# Altium schematic symbol library Interface_UART.SchLib: 164 symbols (part 1 of 2)
Pins are listed as number, name and electrical type; pins without a type are passive.

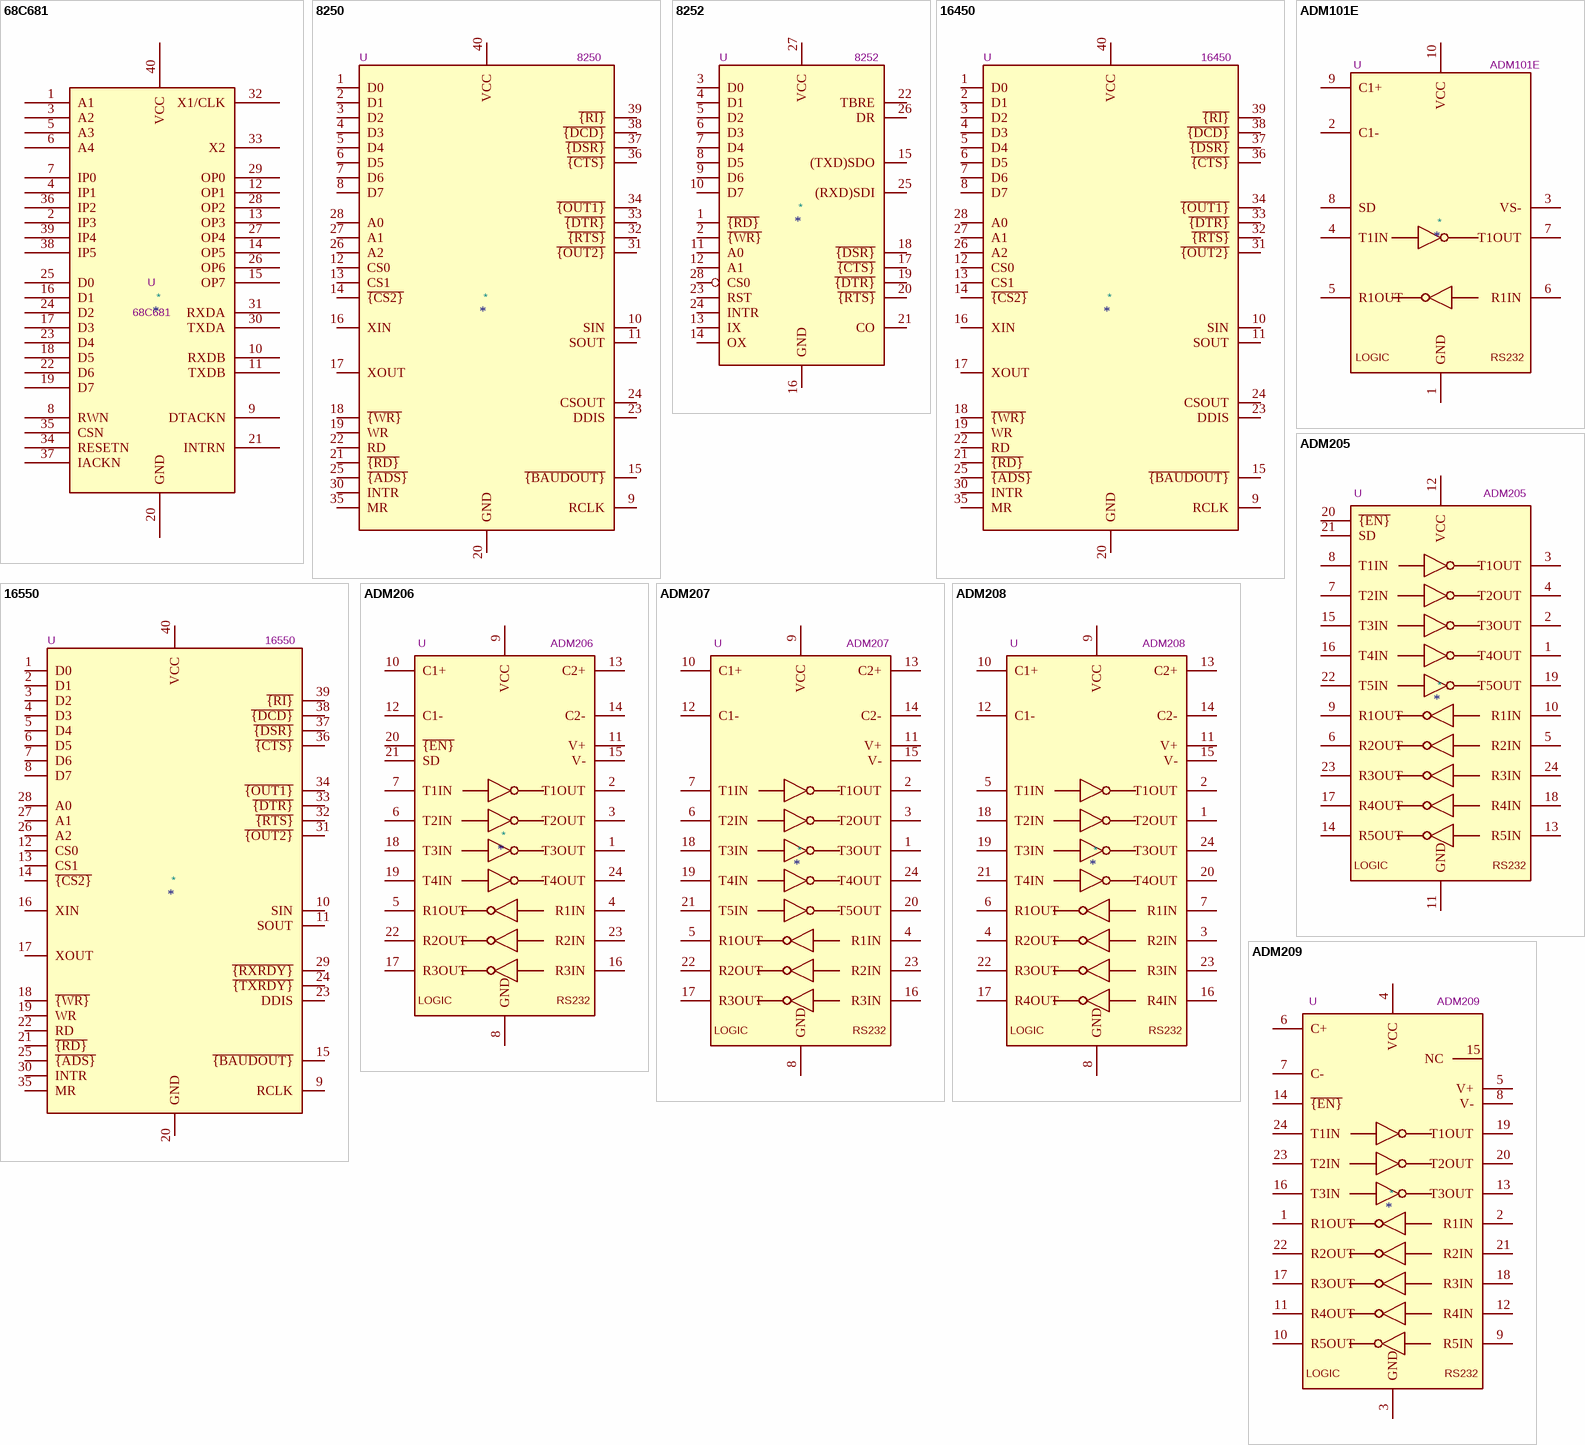
[diagram p0: symbols 68C681 to ADM209]

## 68C681
designator *  value 68C681  Reference: U
CMOS Dual Channel UART; ki_keywords: UART serial; Datasheet: https://www.elektronik.ropla.eu/pdf/stock/exa/xr68c681.pdf; Description_: CMOS Dual Channel UART
pins: 1 A1, 2 IP3, 3 A2, 4 IP1, 5 A3, 6 A4, 7 IP0, 8 RWN, 9 DTACKN, 10 RXDB, 11 TXDB, 12 OP1, 13 OP3, 14 OP5, 15 OP7, 16 D1, 17 D3, 18 D5, 19 D7, 20 GND, 21 INTRN, 22 D6, 23 D4, 24 D2, 25 D0, 26 OP6, 27 OP4, 28 OP2, 29 OP0, 30 TXDA, 31 RXDA, 32 X1/CLK, 33 X2, 34 RESETN, 35 CSN, 36 IP2, 37 IACKN, 38 IP5, 39 IP4, 40 VCC

## 8250
designator *  value 8250  Reference: U
PC8250A, Universal Asynchronous Receiver/Transmitter, PDIP-40; ki_keywords: 1ch UART; ki_fp_filters: DIP*W15.24mm*; Footprint: Package_DIP:DIP-40_W15.24mm; Description_: PC8250A, Universal Asynchronous Receiver/Transmitter, PDIP-40
pins: 1 D0, 2 D1, 3 D2, 4 D3, 5 D4, 6 D5, 7 D6, 8 D7, 9 RCLK, 10 SIN, 11 SOUT, 12 CS0, 13 CS1, 14 ~{{CS2}}, 15 ~{{BAUDOUT}}, 16 XIN, 17 XOUT, 18 ~{{WR}}, 19 WR, 20 GND, 21 ~{{RD}}, 22 RD, 23 DDIS, 24 CSOUT, 25 ~{{ADS}}, 26 A2, 27 A1, 28 A0, 30 INTR, 31 ~{{OUT2}}, 32 ~{{RTS}}, 33 ~{{DTR}}, 34 ~{{OUT1}}, 35 MR, 36 ~{{CTS}}, 37 ~{{DSR}}, 38 ~{{DCD}}, 39 ~{{RI}}, 40 VCC

## 8252
designator *  value 8252  Reference: U
Universal Asynchronous Receiver/Transmitter, PDIP-28; ki_keywords: UART Serial Interface; ki_fp_filters: DIP*W15.24mm*; Footprint: Package_DIP:DIP-28_W15.24mm; Description_: Universal Asynchronous Receiver/Transmitter, PDIP-28
pins: 1 ~{{RD}}, 2 ~{{WR}}, 3 D0, 4 D1, 5 D2, 6 D3, 7 D4, 8 D5, 9 D6, 10 D7, 11 A0, 12 A1, 13 IX, 14 OX, 15 (TXD)SDO, 16 GND, 17 ~{{CTS}}, 18 ~{{DSR}}, 19 ~{{DTR}}, 20 ~{{RTS}}, 21 CO, 22 TBRE, 23 RST, 24 INTR, 25 (RXD)SDI, 26 DR, 27 VCC, 28 CS0

## 16450
designator *  value 16450  Reference: U
PC16450, Universal Asynchronous Receiver/Transmitter, PDIP-40; ki_keywords: 1ch UART; ki_fp_filters: DIP*W15.24mm*; Footprint: Package_DIP:DIP-40_W15.24mm; Description_: PC16450, Universal Asynchronous Receiver/Transmitter, PDIP-40
pins: 1 D0, 2 D1, 3 D2, 4 D3, 5 D4, 6 D5, 7 D6, 8 D7, 9 RCLK, 10 SIN, 11 SOUT, 12 CS0, 13 CS1, 14 ~{{CS2}}, 15 ~{{BAUDOUT}}, 16 XIN, 17 XOUT, 18 ~{{WR}}, 19 WR, 20 GND, 21 ~{{RD}}, 22 RD, 23 DDIS, 24 CSOUT, 25 ~{{ADS}}, 26 A2, 27 A1, 28 A0, 30 INTR, 31 ~{{OUT2}}, 32 ~{{RTS}}, 33 ~{{DTR}}, 34 ~{{OUT1}}, 35 MR, 36 ~{{CTS}}, 37 ~{{DSR}}, 38 ~{{DCD}}, 39 ~{{RI}}, 40 VCC

## 16550
designator *  value 16550  Reference: U
PC16550D, Universal Asynchronous Receiver/Transmitter with FIFOs, PDIP-40; ki_keywords: 1ch UART FIFO; ki_fp_filters: DIP*W15.24mm*; Footprint: Package_DIP:DIP-40_W15.24mm; Datasheet: http://www.ti.com/lit/ds/symlink/pc16550d.pdf; Description_: PC16550D, Universal Asynchronous Receiver/Transmitter with FIFOs, PDIP-40
pins: 1 D0, 2 D1, 3 D2, 4 D3, 5 D4, 6 D5, 7 D6, 8 D7, 9 RCLK, 10 SIN, 11 SOUT, 12 CS0, 13 CS1, 14 ~{{CS2}}, 15 ~{{BAUDOUT}}, 16 XIN, 17 XOUT, 18 ~{{WR}}, 19 WR, 20 GND, 21 ~{{RD}}, 22 RD, 23 DDIS, 24 ~{{TXRDY}}, 25 ~{{ADS}}, 26 A2, 27 A1, 28 A0, 29 ~{{RXRDY}}, 30 INTR, 31 ~{{OUT2}}, 32 ~{{RTS}}, 33 ~{{DTR}}, 34 ~{{OUT1}}, 35 MR, 36 ~{{CTS}}, 37 ~{{DSR}}, 38 ~{{DCD}}, 39 ~{{RI}}, 40 VCC

## ADM101E
designator *  value ADM101E  Reference: U
Single RS232 driver/receiver, 5V supply, 460kb/s; ki_keywords: rs232 uart transceiver line-driver; ki_fp_filters: MSOP*; Footprint: Package_SO:MSOP-10_3x3mm_P0.5mm; Datasheet: https://www.analog.com/media/en/technical-documentation/data-sheets/ADM101E.pdf; Description_: Single RS232 driver/receiver, 5V supply, 460kb/s
pins: 1 GND, 2 C1-, 3 VS-, 4 T1IN, 5 R1OUT, 6 R1IN, 7 T1OUT, 8 SD, 9 C1+, 10 VCC
text: LOGIC; RS232

## ADM205
designator *  value ADM205  Reference: U
0.1 μF, 5V powered CMOS RS-232 120kb/s transceiver with 5 drivers and 5 receivers (tx/rx: 5/5), shutdown / enable pins, DIP-24 (600 mil); ki_keywords: UART RS232 Obsolete; ki_fp_filters: *DIP*W15.*; Footprint: Package_DIP:DIP-24_W15.24mm; Datasheet: https://www.analog.com/media/en/technical-documentation/obsolete-data-sheets/17659925ADM205.PDF; Description_: 0.1 μF, 5V powered CMOS RS-232 120kb/s transceiver with 5 drivers and 5 receivers (tx/rx: 5/5), shutdown / enable pins, DIP-24 (600 mil)
pins: 1 T4OUT, 2 T3OUT, 3 T1OUT, 4 T2OUT, 5 R2IN, 6 R2OUT, 7 T2IN, 8 T1IN, 9 R1OUT, 10 R1IN, 11 GND, 12 VCC, 13 R5IN, 14 R5OUT, 15 T3IN, 16 T4IN, 17 R4OUT, 18 R4IN, 19 T5OUT, 20 ~{{EN}}, 21 SD, 22 T5IN, 23 R3OUT, 24 R3IN
text: LOGIC; RS232

## ADM206
designator *  value ADM206  Reference: U
0.1 μF, 5V powered CMOS RS-232 120kb/s transceiver with 4 drivers and 3 receivers (tx/rx: 4/3), shutdown / enable pins, DIP-24 (300 mil) / SOIC-24 / SSOP-24; ki_keywords: UART RS232; ki_fp_filters: *DIP*W7.62* *SOIC*7.*15.*P1.27mm* *SSOP*5.3*8.*P0.65mm*; Datasheet: https://www.analog.com/media/en/technical-documentation/data-sheets/ADM206_207_208_211_213.pdf; Description_: 0.1 μF, 5V powered CMOS RS-232 120kb/s transceiver with 4 drivers and 3 receivers (tx/rx: 4/3), shutdown / enable pins, DIP-24 (300 mil) / SOIC-24 / SSOP-24
pins: 1 T3OUT, 2 T1OUT, 3 T2OUT, 4 R1IN, 5 R1OUT, 6 T2IN, 7 T1IN, 8 GND, 9 VCC, 10 C1+, 11 V+, 12 C1-, 13 C2+, 14 C2-, 15 V-, 16 R3IN, 17 R3OUT, 18 T3IN, 19 T4IN, 20 ~{{EN}}, 21 SD, 22 R2OUT, 23 R2IN, 24 T4OUT
text: LOGIC; RS232

## ADM207
designator *  value ADM207  Reference: U
0.1 μF, 5V powered CMOS RS-232 120kb/s transceiver with 5 drivers and 3 receivers (tx/rx: 5/3), DIP-24 (300 mil) / SOIC-24 / SSOP-24; ki_keywords: UART RS232; ki_fp_filters: *DIP*W7.62* *SOIC*7.*15.*P1.27mm* *SSOP*5.3*8.*P0.65mm*; Datasheet: https://www.analog.com/media/en/technical-documentation/data-sheets/ADM206_207_208_211_213.pdf; Description_: 0.1 μF, 5V powered CMOS RS-232 120kb/s transceiver with 5 drivers and 3 receivers (tx/rx: 5/3), DIP-24 (300 mil) / SOIC-24 / SSOP-24
pins: 1 T3OUT, 2 T1OUT, 3 T2OUT, 4 R1IN, 5 R1OUT, 6 T2IN, 7 T1IN, 8 GND, 9 VCC, 10 C1+, 11 V+, 12 C1-, 13 C2+, 14 C2-, 15 V-, 16 R3IN, 17 R3OUT, 18 T3IN, 19 T4IN, 20 T5OUT, 21 T5IN, 22 R2OUT, 23 R2IN, 24 T4OUT
text: LOGIC; RS232

## ADM208
designator *  value ADM208  Reference: U
0.1 μF, 5V powered CMOS RS-232 120kb/s transceiver with 4 drivers and 4 receivers (tx/rx: 4/4), DIP-24 (300 mil) / SOIC-24 / SSOP-24; ki_keywords: UART RS232; ki_fp_filters: *DIP*W7.62* *SOIC*7.*15.*P1.27mm* *SSOP*5.3*8.*P0.65mm*; Datasheet: https://www.analog.com/media/en/technical-documentation/data-sheets/ADM206_207_208_211_213.pdf; Description_: 0.1 μF, 5V powered CMOS RS-232 120kb/s transceiver with 4 drivers and 4 receivers (tx/rx: 4/4), DIP-24 (300 mil) / SOIC-24 / SSOP-24
pins: 1 T2OUT, 2 T1OUT, 3 R2IN, 4 R2OUT, 5 T1IN, 6 R1OUT, 7 R1IN, 8 GND, 9 VCC, 10 C1+, 11 V+, 12 C1-, 13 C2+, 14 C2-, 15 V-, 16 R4IN, 17 R4OUT, 18 T2IN, 19 T3IN, 20 T4OUT, 21 T4IN, 22 R3OUT, 23 R3IN, 24 T3OUT
text: LOGIC; RS232

## ADM209
designator *  value ADM209  Reference: U
0.1 μF, 5V powered CMOS RS-232 120kb/s transceiver with 3 drivers and 5 receivers (tx/rx: 3/5), enable pin, external 9 V to 13.2 V supply, DIP-24 (300 mil) / SOIC-24 / SSOP-24; ki_keywords: UART RS232 Obsolete; ki_fp_filters: *DIP*W7.62* *SOIC*7.*15.*P1.27mm* *SSOP*5.3*8.*P0.65mm*; Datasheet: https://www.analog.com/media/en/technical-documentation/obsolete-data-sheets/17659925ADM205.PDF; Description_: 0.1 μF, 5V powered CMOS RS-232 120kb/s transceiver with 3 drivers and 5 receivers (tx/rx: 3/5), enable pin, external 9 V to 13.2 V supply, DIP-24 (300 mil) / SOIC-24 / SSOP-24
pins: 1 R1OUT, 2 R1IN, 3 GND, 4 VCC, 5 V+, 6 C+, 7 C-, 8 V-, 9 R5IN, 10 R5OUT, 11 R4OUT, 12 R4IN, 13 T3OUT, 14 ~{{EN}}, 15 NC, 16 T3IN, 17 R3OUT, 18 R3IN, 19 T1OUT, 20 T2OUT, 21 R2IN, 22 R2OUT, 23 T2IN, 24 T1IN
text: LOGIC; RS232

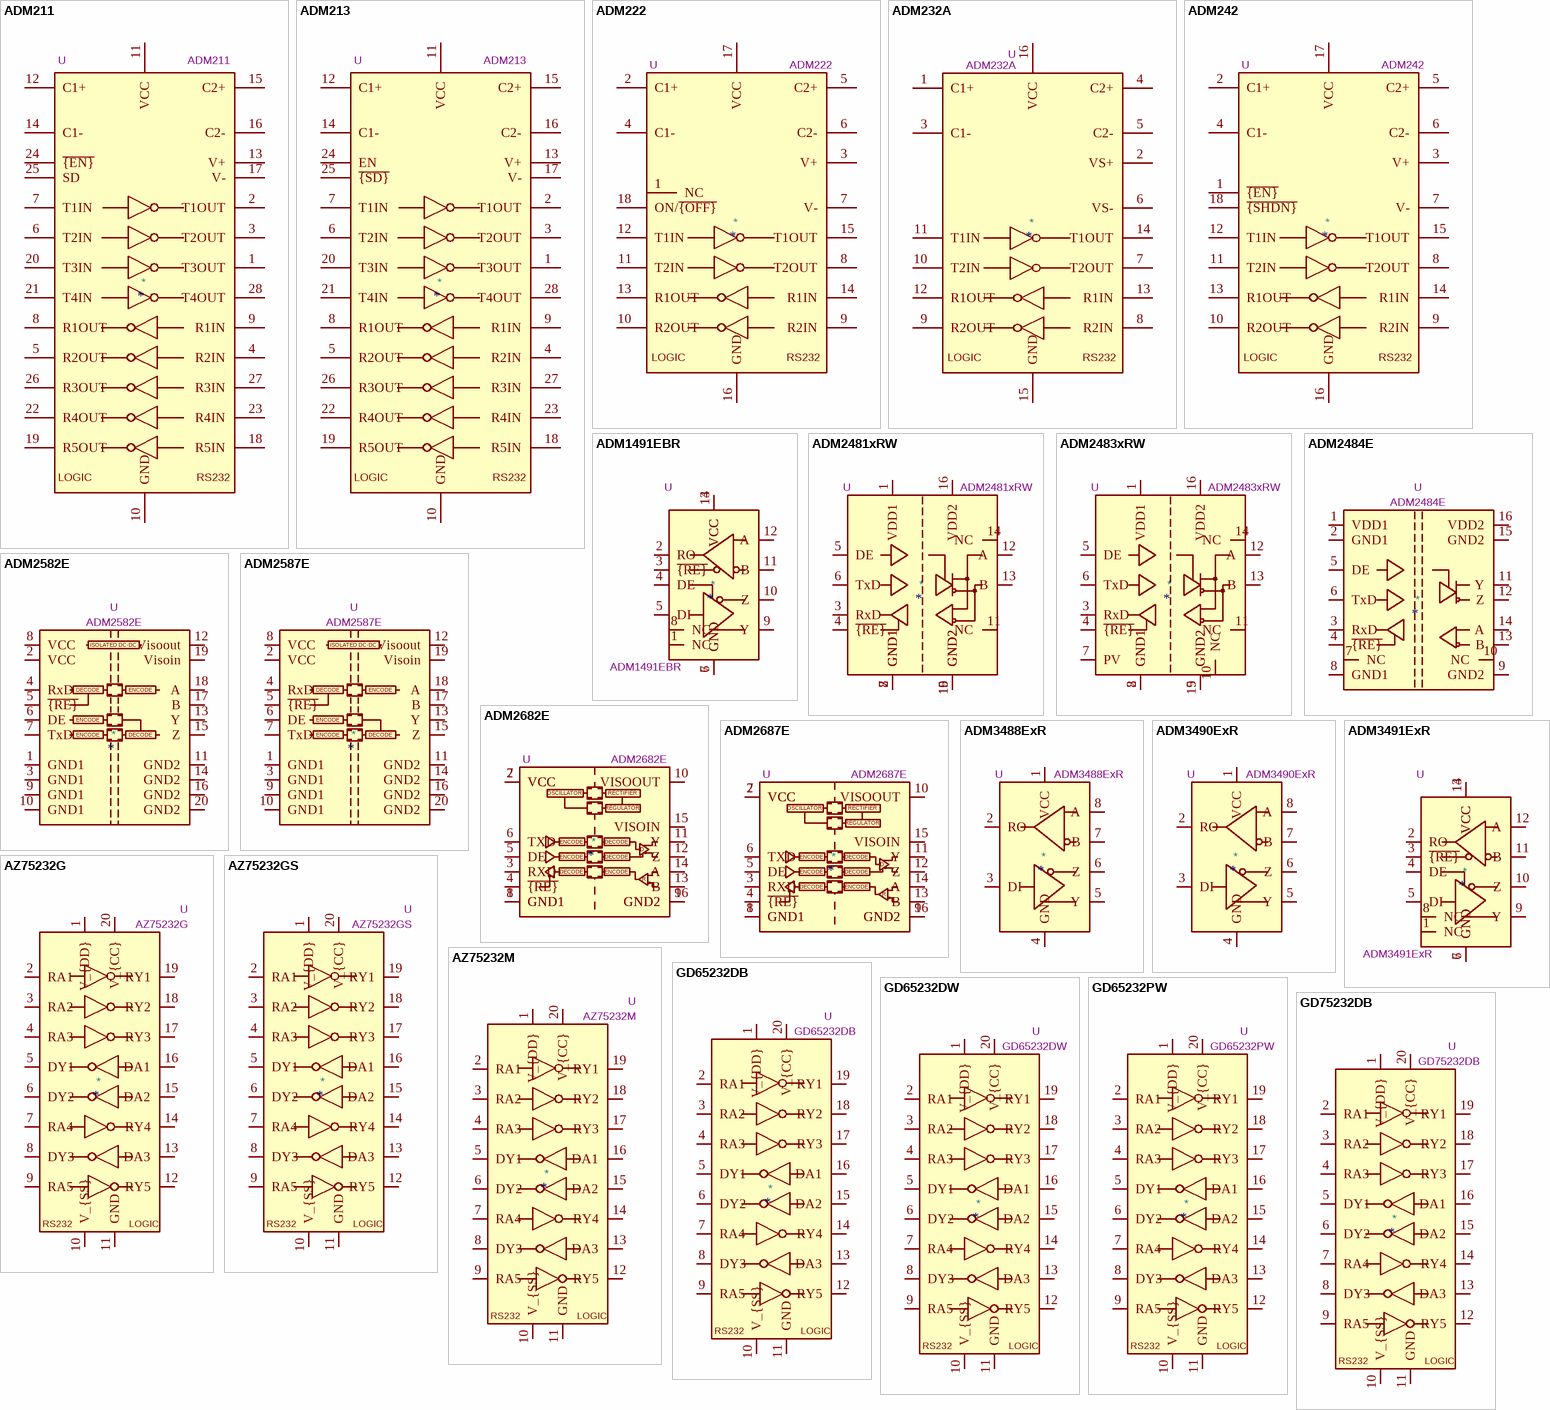
[diagram p1: symbols ADM211 to GD75232DB]

## ADM211
designator *  value ADM211  Reference: U
0.1 μF, 5V powered CMOS RS-232 120kb/s transceiver with 4 drivers and 5 receivers (tx/rx: 4/5), shutdown / enable pins, SOIC-28 / SSOP-28; ki_keywords: UART RS232; ki_fp_filters: *SOIC*7.*17.*P1.27mm* *SSOP*5.3*10.*P0.65mm*; Datasheet: https://www.analog.com/media/en/technical-documentation/data-sheets/ADM206_207_208_211_213.pdf; Description_: 0.1 μF, 5V powered CMOS RS-232 120kb/s transceiver with 4 drivers and 5 receivers (tx/rx: 4/5), shutdown / enable pins, SOIC-28 / SSOP-28
pins: 1 T3OUT, 2 T1OUT, 3 T2OUT, 4 R2IN, 5 R2OUT, 6 T2IN, 7 T1IN, 8 R1OUT, 9 R1IN, 10 GND, 11 VCC, 12 C1+, 13 V+, 14 C1-, 15 C2+, 16 C2-, 17 V-, 18 R5IN, 19 R5OUT, 20 T3IN, 21 T4IN, 22 R4OUT, 23 R4IN, 24 ~{{EN}}, 25 SD, 26 R3OUT, 27 R3IN, 28 T4OUT
text: LOGIC; RS232

## ADM213
designator *  value ADM213  Reference: U
0.1 μF, 5V powered CMOS RS-232 120kb/s transceiver with 4 drivers and 5 receivers (tx/rx: 4/5; 2 receivers active in shutdown), shutdown / enable pins, SOIC-28 / SSOP-28; ki_keywords: UART RS232; ki_fp_filters: *SOIC*7.*17.*P1.27mm* *SSOP*5.3*10.*P0.65mm*; Datasheet: https://www.analog.com/media/en/technical-documentation/data-sheets/ADM206_207_208_211_213.pdf; Description_: 0.1 μF, 5V powered CMOS RS-232 120kb/s transceiver with 4 drivers and 5 receivers (tx/rx: 4/5; 2 receivers active in shutdown), shutdown / enable pins, SOIC-28 / SSOP-28
pins: 1 T3OUT, 2 T1OUT, 3 T2OUT, 4 R2IN, 5 R2OUT, 6 T2IN, 7 T1IN, 8 R1OUT, 9 R1IN, 10 GND, 11 VCC, 12 C1+, 13 V+, 14 C1-, 15 C2+, 16 C2-, 17 V-, 18 R5IN, 19 R5OUT, 20 T3IN, 21 T4IN, 22 R4OUT, 23 R4IN, 24 EN, 25 ~{{SD}}, 26 R3OUT, 27 R3IN, 28 T4OUT
text: LOGIC; RS232

## ADM222
designator *  value ADM222  Reference: U
Dual RS232 driver/receiver, 5V supply, 200kb/s; ki_keywords: rs232 uart transceiver; ki_fp_filters: SO* DIP*W7.62mm*; Datasheet: https://www.analog.com/media/en/technical-documentation/data-sheets/ADM222_232A_242.pdf; Description_: Dual RS232 driver/receiver, 5V supply, 200kb/s
pins: 1 NC, 2 C1+, 3 V+, 4 C1-, 5 C2+, 6 C2-, 7 V-, 8 T2OUT, 9 R2IN, 10 R2OUT, 11 T2IN, 12 T1IN, 13 R1OUT, 14 R1IN, 15 T1OUT, 16 GND, 17 VCC, 18 ON/~{{OFF}}
text: LOGIC; RS232

## ADM232A
designator *  value ADM232A  Reference: U
Dual RS232 driver/receiver, 5V supply, 200kb/s; ki_keywords: rs232 uart transceiver line-driver; ki_fp_filters: SOIC*P1.27mm* DIP*W7.62mm* TSSOP*4.4x5mm*P0.65mm*; Datasheet: https://www.analog.com/media/en/technical-documentation/data-sheets/ADM222_232A_242.pdf; Description_: Dual RS232 driver/receiver, 5V supply, 200kb/s
pins: 1 C1+, 2 VS+, 3 C1-, 4 C2+, 5 C2-, 6 VS-, 7 T2OUT, 8 R2IN, 9 R2OUT, 10 T2IN, 11 T1IN, 12 R1OUT, 13 R1IN, 14 T1OUT, 15 GND, 16 VCC
text: LOGIC; RS232

## ADM242
designator *  value ADM242  Reference: U
Dual RS232 driver/receiver, 5V supply, 200kb/s, separate shutdown/enable pins; ki_keywords: rs232 uart transceiver; ki_fp_filters: SO* DIP*W7.62mm*; Datasheet: https://www.analog.com/media/en/technical-documentation/data-sheets/ADM222_232A_242.pdf; Description_: Dual RS232 driver/receiver, 5V supply, 200kb/s, separate shutdown/enable pins
pins: 1 ~{{EN}}, 2 C1+, 3 V+, 4 C1-, 5 C2+, 6 C2-, 7 V-, 8 T2OUT, 9 R2IN, 10 R2OUT, 11 T2IN, 12 T1IN, 13 R1OUT, 14 R1IN, 15 T1OUT, 16 GND, 17 VCC, 18 ~{{SHDN}}
text: LOGIC; RS232

## ADM1491EBR
designator *  value ADM1491EBR  Reference: U
RS-485, RS-422 full duplex 16Mbps transceiver, SOIC-14; ki_keywords: RS485 RS422 transceiver full duplex; ki_fp_filters: SOIC*3.9x8.7mm*P1.27mm*; Footprint: Package_SO:SOIC-14_3.9x8.7mm_P1.27mm; Datasheet: https://www.analog.com/media/en/technical-documentation/data-sheets/ADM1490E_1491E.pdf; Description_: RS-485, RS-422 full duplex 16Mbps transceiver, SOIC-14
pins: 1 NC, 2 RO, 3 ~{{RE}}, 4 DE, 5 DI, 6 GND, 7 GND, 8 NC, 9 Y, 10 Z, 11 B, 12 A, 13 VCC, 14 VCC

## ADM2481xRW
designator *  value ADM2481xRW  Reference: U
Isolated RS485/RS422 Transceiver, Half-Duplex, 500kbps, SOIC-16W; ki_keywords: rs-485 rs-422 eia485 eia-485 eia422 eia-422 serial differential; ki_fp_filters: SOIC*7.5x10.3mm*P1.27mm*; Footprint: Package_SO:SOIC-16W_7.5x10.3mm_P1.27mm; Datasheet: https://www.analog.com/media/en/technical-documentation/data-sheets/adm2481.pdf; Description_: Isolated RS485/RS422 Transceiver, Half-Duplex, 500kbps, SOIC-16W
pins: 1 VDD1, 2 GND1, 3 RxD, 4 ~{{RE}}, 5 DE, 6 TxD, 7 GND1, 8 GND1, 9 GND2, 10 GND2, 11 NC, 12 A, 13 B, 14 NC, 15 GND2, 16 VDD2

## ADM2483xRW
designator *  value ADM2483xRW  Reference: U
Isolated RS485/RS422 Transceiver, Half-Duplex, 500kbps, SOIC-16W; ki_keywords: rs-485 rs-422 eia485 eia-485 eia422 eia-422 serial differential; ki_fp_filters: SOIC*7.5x10.3mm*P1.27mm*; Footprint: Package_SO:SOIC-16W_7.5x10.3mm_P1.27mm; Datasheet: https://www.analog.com/media/en/technical-documentation/data-sheets/adm2483.pdf; Description_: Isolated RS485/RS422 Transceiver, Half-Duplex, 500kbps, SOIC-16W
pins: 1 VDD1, 2 GND1, 3 RxD, 4 ~{{RE}}, 5 DE, 6 TxD, 7 PV, 8 GND1, 9 GND2, 10 NC, 11 NC, 12 A, 13 B, 14 NC, 15 GND2, 16 VDD2

## ADM2484E
designator *  value ADM2484E  Reference: U
Isolated RS485/RS422 Transceiver, Half-/Full-Duplex, 500kbps,SOIC-16W; ki_keywords: RS485 Transceiver RS422 Transceiver; ki_fp_filters: SOIC*7.5x10.3mm*P1.27mm*; Footprint: Package_SO:SOIC-16W_7.5x10.3mm_P1.27mm; Datasheet: https://www.analog.com/media/en/technical-documentation/data-sheets/ADM2484E.pdf; Description_: Isolated RS485/RS422 Transceiver, Half-/Full-Duplex, 500kbps,SOIC-16W
pins: 1 VDD1, 2 GND1, 3 RxD, 4 ~{{RE}}, 5 DE, 6 TxD, 7 NC, 8 GND1, 9 GND2, 10 NC, 11 Y, 12 Z, 13 B, 14 A, 15 GND2, 16 VDD2

## ADM2582E
designator *  value ADM2582E  Reference: U
Isolated RS485/RS422 Transceiver,Integrated Isolated DC-DC Converter, 16Mbps,SO-20; ki_keywords: RS485 Transceiver,RS422 Transceiver; ki_fp_filters: SOIC*7.5x12.8mm*P1.27mm*; Footprint: Package_SO:SOIC-20W_7.5x12.8mm_P1.27mm; Datasheet: www.analog.com/media/en/technical-documentation/data-sheets/ADM2582E_2587E.pdf; Description_: Isolated RS485/RS422 Transceiver,Integrated Isolated DC-DC Converter, 16Mbps,SO-20
pins: 1 GND1, 2 VCC, 3 GND1, 4 RxD, 5 ~{{RE}}, 6 DE, 7 TxD, 8 VCC, 9 GND1, 10 GND1, 11 GND2, 12 Visoout, 13 Y, 14 GND2, 15 Z, 16 GND2, 17 B, 18 A, 19 Visoin, 20 GND2
text: ISOLATED DC-DC; DECODE; ENCODE

## ADM2587E
designator *  value ADM2587E  Reference: U
Isolated RS485/RS422 Transceiver,Integrated Isolated DC-DC Converter, 500kbps,SO-20; ki_keywords: RS485 Transceiver,RS422 Transceiver; ki_fp_filters: SOIC*7.5x12.8mm*P1.27mm*; Footprint: Package_SO:SOIC-20W_7.5x12.8mm_P1.27mm; Datasheet: www.analog.com/media/en/technical-documentation/data-sheets/ADM2582E_2587E.pdf; Description_: Isolated RS485/RS422 Transceiver,Integrated Isolated DC-DC Converter, 500kbps,SO-20
pins: 1 GND1, 2 VCC, 3 GND1, 4 RxD, 5 ~{{RE}}, 6 DE, 7 TxD, 8 VCC, 9 GND1, 10 GND1, 11 GND2, 12 Visoout, 13 Y, 14 GND2, 15 Z, 16 GND2, 17 B, 18 A, 19 Visoin, 20 GND2
text: ISOLATED DC-DC; DECODE; ENCODE

## ADM2682E
designator *  value ADM2682E  Reference: U
Isolated RS485/RS422 Transceiver, Integrated Isolated DC-DC Converter, 16Mbps, SOIC-16W; ki_keywords: RS485 Transceiver, RS422 Transceiver, Isopower; ki_fp_filters: SOIC*7.5x12.8mm*P1.27mm*; Footprint: Package_SO:SOIC-16W_7.5x12.8mm_P1.27mm; Datasheet: https://www.analog.com/media/en/technical-documentation/data-sheets/ADM2682E_2687E.pdf; Description_: Isolated RS485/RS422 Transceiver, Integrated Isolated DC-DC Converter, 16Mbps, SOIC-16W
pins: 1 GND1, 2 VCC, 3 RXD, 4 ~{{RE}}, 5 DE, 6 TXD, 7 VCC, 8 GND1, 9 GND2, 10 VISOOUT, 11 Y, 12 Z, 13 B, 14 A, 15 VISOIN, 16 GND2
text: OSCILLATOR; RECTIFIER; REGULATOR; ENCODE; DECODE; D; R

## ADM2687E
designator *  value ADM2687E  Reference: U
Isolated RS485/RS422 Transceiver, Integrated Isolated DC-DC Converter, 500kbps, SOIC-16W; ki_keywords: RS485 Transceiver, RS422 Transceiver, Isopower; ki_fp_filters: SOIC*7.5x12.8mm*P1.27mm*; Footprint: Package_SO:SOIC-16W_7.5x12.8mm_P1.27mm; Datasheet: https://www.analog.com/media/en/technical-documentation/data-sheets/ADM2682E_2687E.pdf; Description_: Isolated RS485/RS422 Transceiver, Integrated Isolated DC-DC Converter, 500kbps, SOIC-16W
pins: 1 GND1, 2 VCC, 3 RXD, 4 ~{{RE}}, 5 DE, 6 TXD, 7 VCC, 8 GND1, 9 GND2, 10 VISOOUT, 11 Y, 12 Z, 13 B, 14 A, 15 VISOIN, 16 GND2
text: OSCILLATOR; RECTIFIER; REGULATOR; ENCODE; DECODE; D; R

## ADM3488ExR
designator *  value ADM3488ExR  Reference: U
RS-485, RS-422 full duplex 250 kbps transceiver, SOIC-8; ki_keywords: RS485 RS422 transceiver full duplex; ki_fp_filters: SOIC*3.9x4.9mm*P1.27mm*; Footprint: Package_SO:SOIC-8_3.9x4.9mm_P1.27mm; Datasheet: https://www.analog.com/media/en/technical-documentation/data-sheets/ADM3483E_3486E_3488E_3490E_3491E.pdf; Description_: RS-485, RS-422 full duplex 250 kbps transceiver, SOIC-8
pins: 1 VCC, 2 RO, 3 DI, 4 GND, 5 Y, 6 Z, 7 B, 8 A

## ADM3490ExR
designator *  value ADM3490ExR  Reference: U
RS-485, RS-422 full duplex 12 Mbps transceiver, SOIC-8; ki_keywords: RS485 RS422 transceiver full duplex; ki_fp_filters: SOIC*3.9x4.9mm*P1.27mm*; Footprint: Package_SO:SOIC-8_3.9x4.9mm_P1.27mm; Datasheet: https://www.analog.com/media/en/technical-documentation/data-sheets/ADM3483E_3486E_3488E_3490E_3491E.pdf; Description_: RS-485, RS-422 full duplex 12 Mbps transceiver, SOIC-8
pins: 1 VCC, 2 RO, 3 DI, 4 GND, 5 Y, 6 Z, 7 B, 8 A

## ADM3491ExR
designator *  value ADM3491ExR  Reference: U
RS-485, RS-422 full duplex 12 Mbps transceiver, SOIC-14; ki_keywords: RS485 RS422 transceiver full duplex; ki_fp_filters: SOIC*3.9x8.7mm*P1.27mm*; Footprint: Package_SO:SOIC-14_3.9x8.7mm_P1.27mm; Datasheet: https://www.analog.com/media/en/technical-documentation/data-sheets/ADM3483E_3486E_3488E_3490E_3491E.pdf; Description_: RS-485, RS-422 full duplex 12 Mbps transceiver, SOIC-14
pins: 1 NC, 2 RO, 3 ~{{RE}}, 4 DE, 5 DI, 6 GND, 7 GND, 8 NC, 9 Y, 10 Z, 11 B, 12 A, 13 VCC, 14 VCC

## AZ75232G
designator *  value AZ75232G  Reference: U
RS232 interface IC, 3 drivers, 5 receivers, 3.3V/5V Vcc supply, bipolar Vdd/Vss supply, 120kb/s, TSSOP-20; ki_keywords: rs232 uart transceiver line-driver; ki_fp_filters: TSSOP*4.4x6.5mm*P0.65mm*; Footprint: Package_SO:TSSOP-20_4.4x6.5mm_P0.65mm; Datasheet: https://www.diodes.com/assets/Datasheets/AZ75232.pdf; Description_: RS232 interface IC, 3 drivers, 5 receivers, 3.3V/5V Vcc supply, bipolar Vdd/Vss supply, 120kb/s, TSSOP-20
pins: 1 V_{DD}, 2 RA1, 3 RA2, 4 RA3, 5 DY1, 6 DY2, 7 RA4, 8 DY3, 9 RA5, 10 V_{SS}, 11 GND, 12 RY5, 13 DA3, 14 RY4, 15 DA2, 16 DA1, 17 RY3, 18 RY2, 19 RY1, 20 V_{CC}
text: RS232; LOGIC

## AZ75232GS
designator *  value AZ75232GS  Reference: U
RS232 interface IC, 3 drivers, 5 receivers, 3.3V/5V Vcc supply, bipolar Vdd/Vss supply, 120kb/s, SSOP-20; ki_keywords: rs232 uart transceiver line-driver; ki_fp_filters: SSOP*5.3x7.2mm*P0.65mm*; Footprint: Package_SO:SSOP-20_5.3x7.2mm_P0.65mm; Datasheet: https://www.diodes.com/assets/Datasheets/AZ75232.pdf; Description_: RS232 interface IC, 3 drivers, 5 receivers, 3.3V/5V Vcc supply, bipolar Vdd/Vss supply, 120kb/s, SSOP-20
pins: 1 V_{DD}, 2 RA1, 3 RA2, 4 RA3, 5 DY1, 6 DY2, 7 RA4, 8 DY3, 9 RA5, 10 V_{SS}, 11 GND, 12 RY5, 13 DA3, 14 RY4, 15 DA2, 16 DA1, 17 RY3, 18 RY2, 19 RY1, 20 V_{CC}
text: RS232; LOGIC

## AZ75232M
designator *  value AZ75232M  Reference: U
RS232 interface IC, 3 drivers, 5 receivers, 3.3V/5V Vcc supply, bipolar Vdd/Vss supply, 120kb/s, SOIC-20; ki_keywords: rs232 uart transceiver line-driver; ki_fp_filters: SOIC*7.5x12.8mm*P1.27mm*; Footprint: Package_SO:SOIC-20W_7.5x12.8mm_P1.27mm; Datasheet: https://www.diodes.com/assets/Datasheets/AZ75232.pdf; Description_: RS232 interface IC, 3 drivers, 5 receivers, 3.3V/5V Vcc supply, bipolar Vdd/Vss supply, 120kb/s, SOIC-20
pins: 1 V_{DD}, 2 RA1, 3 RA2, 4 RA3, 5 DY1, 6 DY2, 7 RA4, 8 DY3, 9 RA5, 10 V_{SS}, 11 GND, 12 RY5, 13 DA3, 14 RY4, 15 DA2, 16 DA1, 17 RY3, 18 RY2, 19 RY1, 20 V_{CC}
text: RS232; LOGIC

## GD65232DB
designator *  value GD65232DB  Reference: U
Multiple RS-232 Driver and Receiver, SSOP-20; ki_keywords: RS232 UART Driver Receiver Interface; ki_fp_filters: SSOP*5.3x7.2mm*P0.65mm*; Footprint: Package_SO:SSOP-20_5.3x7.2mm_P0.65mm; Datasheet: http://www.ti.com/lit/ds/symlink/gd75232.pdf; Description_: Multiple RS-232 Driver and Receiver, SSOP-20
pins: 1 V_{DD}, 2 RA1, 3 RA2, 4 RA3, 5 DY1, 6 DY2, 7 RA4, 8 DY3, 9 RA5, 10 V_{SS}, 11 GND, 12 RY5, 13 DA3, 14 RY4, 15 DA2, 16 DA1, 17 RY3, 18 RY2, 19 RY1, 20 V_{CC}
text: RS232; LOGIC

## GD65232DW
designator *  value GD65232DW  Reference: U
Multiple RS-232 Driver and Receiver, SOIC-20; ki_keywords: RS232 UART Driver Receiver Interface; ki_fp_filters: SOIC*7.5x12.8mm*P1.27mm*; Footprint: Package_SO:SOIC-20W_7.5x12.8mm_P1.27mm; Datasheet: http://www.ti.com/lit/ds/symlink/gd75232.pdf; Description_: Multiple RS-232 Driver and Receiver, SOIC-20
pins: 1 V_{DD}, 2 RA1, 3 RA2, 4 RA3, 5 DY1, 6 DY2, 7 RA4, 8 DY3, 9 RA5, 10 V_{SS}, 11 GND, 12 RY5, 13 DA3, 14 RY4, 15 DA2, 16 DA1, 17 RY3, 18 RY2, 19 RY1, 20 V_{CC}
text: RS232; LOGIC

## GD65232PW
designator *  value GD65232PW  Reference: U
Multiple RS-232 Driver and Receiver, TSSOP-20; ki_keywords: RS232 UART Driver Receiver Interface; ki_fp_filters: TSSOP*; Footprint: Package_SO:TSSOP-20_4.4x6.5mm_P0.65mm; Datasheet: http://www.ti.com/lit/ds/symlink/gd75232.pdf; Description_: Multiple RS-232 Driver and Receiver, TSSOP-20
pins: 1 V_{DD}, 2 RA1, 3 RA2, 4 RA3, 5 DY1, 6 DY2, 7 RA4, 8 DY3, 9 RA5, 10 V_{SS}, 11 GND, 12 RY5, 13 DA3, 14 RY4, 15 DA2, 16 DA1, 17 RY3, 18 RY2, 19 RY1, 20 V_{CC}
text: RS232; LOGIC

## GD75232DB
designator *  value GD75232DB  Reference: U
Multiple RS-232 Driver and Receiver, SSOP-20; ki_keywords: RS232 UART Driver Receiver Interface; ki_fp_filters: SSOP*5.3x7.2mm*P0.65mm*; Footprint: Package_SO:SSOP-20_5.3x7.2mm_P0.65mm; Datasheet: http://www.ti.com/lit/ds/symlink/gd75232.pdf; Description_: Multiple RS-232 Driver and Receiver, SSOP-20
pins: 1 V_{DD}, 2 RA1, 3 RA2, 4 RA3, 5 DY1, 6 DY2, 7 RA4, 8 DY3, 9 RA5, 10 V_{SS}, 11 GND, 12 RY5, 13 DA3, 14 RY4, 15 DA2, 16 DA1, 17 RY3, 18 RY2, 19 RY1, 20 V_{CC}
text: RS232; LOGIC

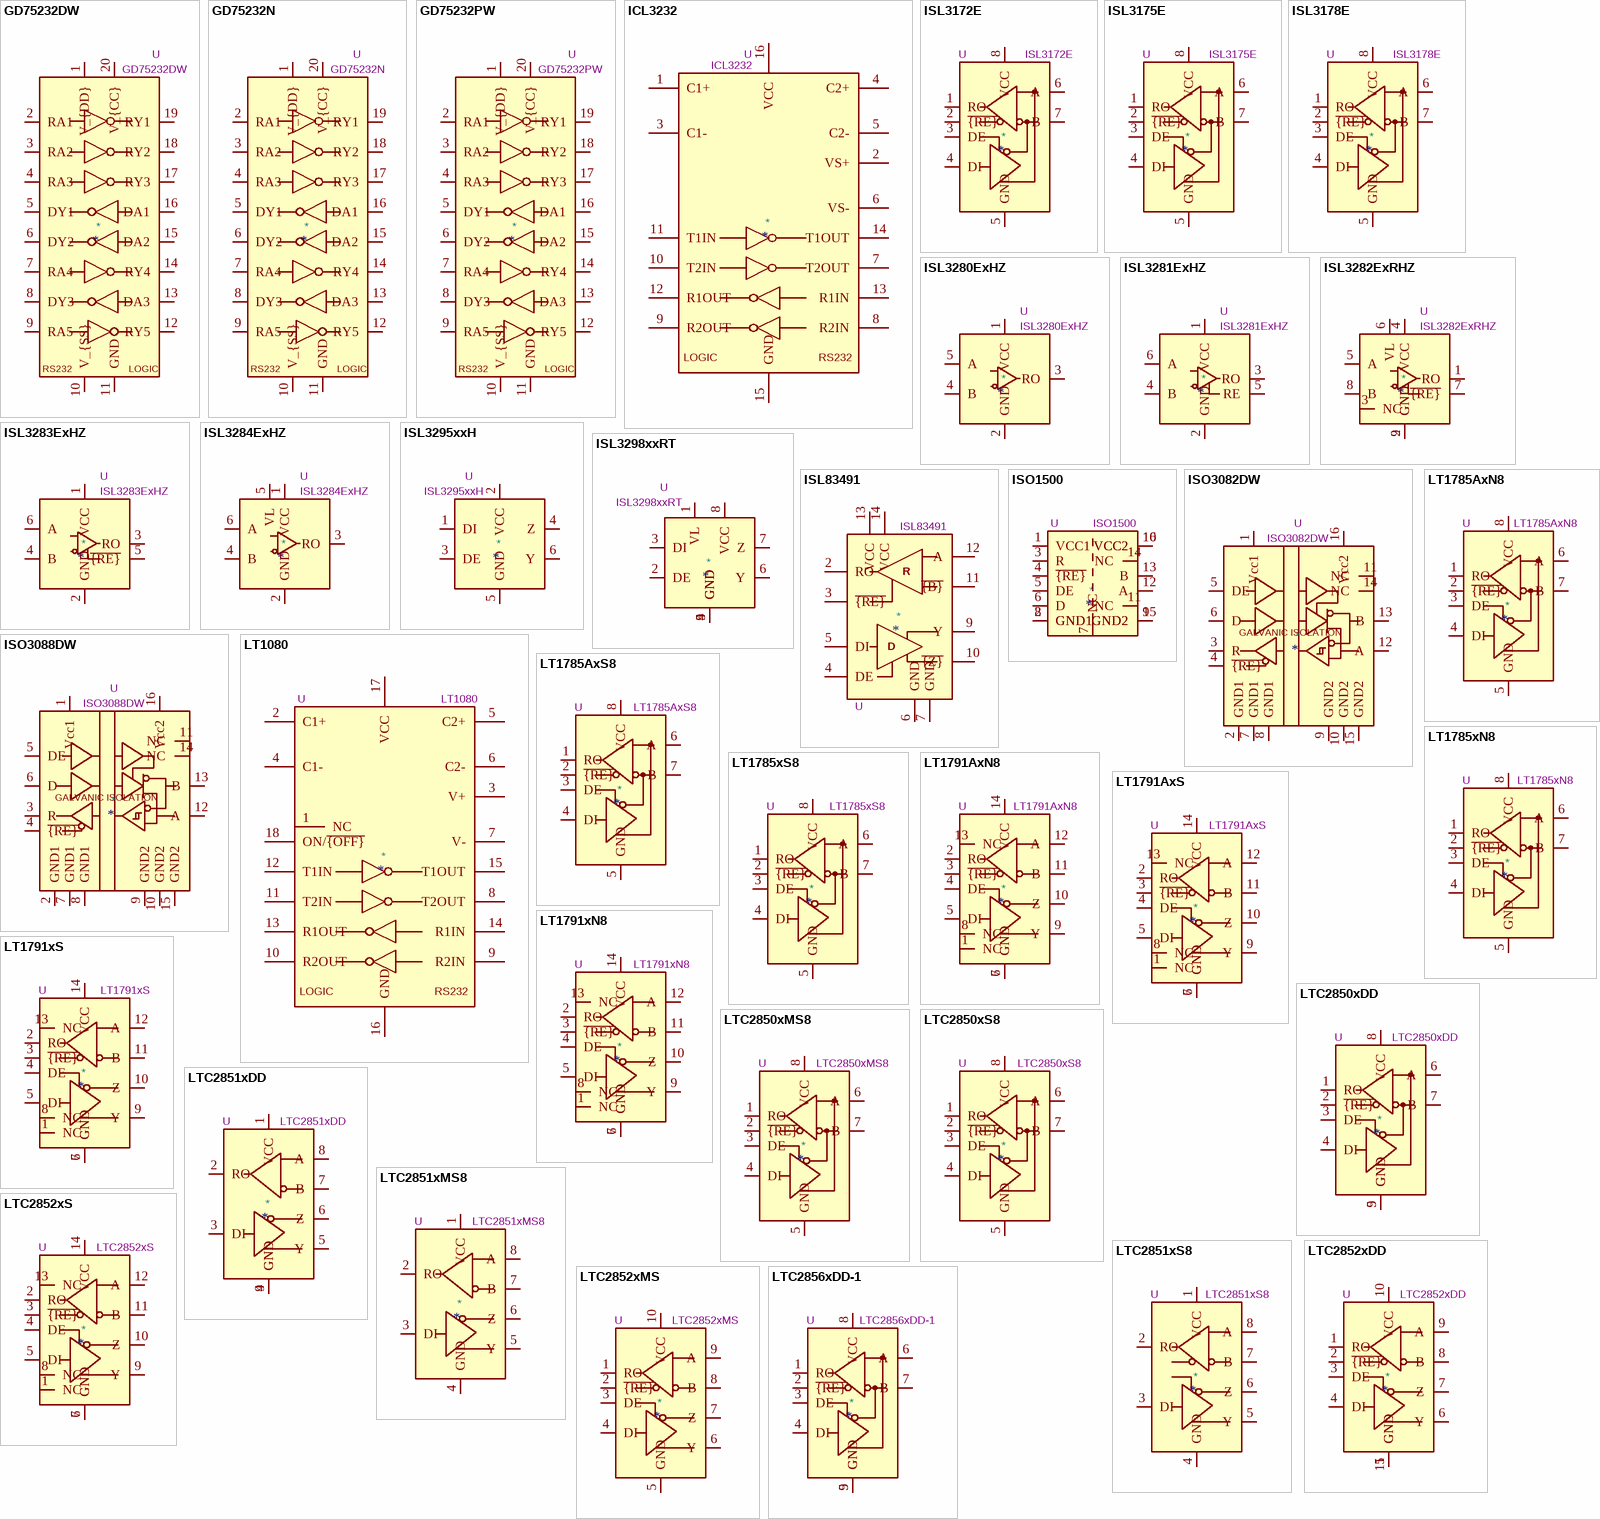
[diagram p2: symbols GD75232DW to LTC2856xDD-1]

## GD75232DW
designator *  value GD75232DW  Reference: U
Multiple RS-232 Driver and Receiver, SOIC-20; ki_keywords: RS232 UART Driver Receiver Interface; ki_fp_filters: SOIC*7.5x12.8mm*P1.27mm*; Footprint: Package_SO:SOIC-20W_7.5x12.8mm_P1.27mm; Datasheet: http://www.ti.com/lit/ds/symlink/gd75232.pdf; Description_: Multiple RS-232 Driver and Receiver, SOIC-20
pins: 1 V_{DD}, 2 RA1, 3 RA2, 4 RA3, 5 DY1, 6 DY2, 7 RA4, 8 DY3, 9 RA5, 10 V_{SS}, 11 GND, 12 RY5, 13 DA3, 14 RY4, 15 DA2, 16 DA1, 17 RY3, 18 RY2, 19 RY1, 20 V_{CC}
text: RS232; LOGIC

## GD75232N
designator *  value GD75232N  Reference: U
Multiple RS-232 Driver and Receiver, DIP-20; ki_keywords: RS232 UART Driver Receiver Interface; ki_fp_filters: DIP*W7.62mm*; Footprint: Package_DIP:DIP-20_W7.62mm; Datasheet: http://www.ti.com/lit/ds/symlink/gd75232.pdf; Description_: Multiple RS-232 Driver and Receiver, DIP-20
pins: 1 V_{DD}, 2 RA1, 3 RA2, 4 RA3, 5 DY1, 6 DY2, 7 RA4, 8 DY3, 9 RA5, 10 V_{SS}, 11 GND, 12 RY5, 13 DA3, 14 RY4, 15 DA2, 16 DA1, 17 RY3, 18 RY2, 19 RY1, 20 V_{CC}
text: RS232; LOGIC

## GD75232PW
designator *  value GD75232PW  Reference: U
Multiple RS-232 Driver and Receiver, TSSOP-20; ki_keywords: RS232 UART Driver Receiver Interface; ki_fp_filters: TSSOP*; Footprint: Package_SO:TSSOP-20_4.4x6.5mm_P0.65mm; Datasheet: http://www.ti.com/lit/ds/symlink/gd75232.pdf; Description_: Multiple RS-232 Driver and Receiver, TSSOP-20
pins: 1 V_{DD}, 2 RA1, 3 RA2, 4 RA3, 5 DY1, 6 DY2, 7 RA4, 8 DY3, 9 RA5, 10 V_{SS}, 11 GND, 12 RY5, 13 DA3, 14 RY4, 15 DA2, 16 DA1, 17 RY3, 18 RY2, 19 RY1, 20 V_{CC}
text: RS232; LOGIC

## ICL3232
designator *  value ICL3232  Reference: U
3.0V to 5.5V, Low-Power, up to 250kbps, True RS-232 Transceivers Using Four 0.1μF External Capacitors; ki_keywords: rs232 uart transceiver line-driver; ki_fp_filters: SOIC*P1.27mm* DIP*W7.62mm* TSSOP*4.4x5mm*P0.65mm*; Datasheet: http://www.intersil.com/content/dam/Intersil/documents/icl3/icl3221-22-23-32-41-43.pdf; Description_: 3.0V to 5.5V, Low-Power, up to 250kbps, True RS-232 Transceivers Using Four 0.1μF External Capacitors
pins: 1 C1+, 2 VS+, 3 C1-, 4 C2+, 5 C2-, 6 VS-, 7 T2OUT, 8 R2IN, 9 R2OUT, 10 T2IN, 11 T1IN, 12 R1OUT, 13 R1IN, 14 T1OUT, 15 GND, 16 VCC
text: LOGIC; RS232

## ISL3172E
designator *  value ISL3172E  Reference: U
250kbps, 3.3V RS-485 transceiver, ±15-kV IEC ESD protection, -7V..+12V common mode voltage, slew-rate limit, SO-8; ki_keywords: RS485 RS422 transceiver half-duplex renesas; ki_fp_filters: SOIC*3.9x4.9mm*P1.27mm*; Footprint: Package_SO:SOIC-8_3.9x4.9mm_P1.27mm; Datasheet: https://www.renesas.com/en/document/dst/isl3170e-isl3171e-isl3172e-isl3173e-isl3174e-isl3175e-isl3176e-isl3177e-isl3178e-datasheet; Description_: 250kbps, 3.3V RS-485 transceiver, ±15-kV IEC ESD protection, -7V..+12V common mode voltage, slew-rate limit, SO-8
pins: 1 RO, 2 ~{{RE}}, 3 DE, 4 DI, 5 GND, 6 A, 7 B, 8 VCC

## ISL3175E
designator *  value ISL3175E  Reference: U
500kbps, 3.3V RS-485 transceiver, ±15-kV IEC ESD protection, -7V..+12V common mode voltage, slew-rate limit, SO-8; ki_keywords: RS485 RS422 transceiver half-duplex renesas; ki_fp_filters: SOIC*3.9x4.9mm*P1.27mm*; Footprint: Package_SO:SOIC-8_3.9x4.9mm_P1.27mm; Datasheet: https://www.renesas.com/en/document/dst/isl3170e-isl3171e-isl3172e-isl3173e-isl3174e-isl3175e-isl3176e-isl3177e-isl3178e-datasheet; Description_: 500kbps, 3.3V RS-485 transceiver, ±15-kV IEC ESD protection, -7V..+12V common mode voltage, slew-rate limit, SO-8
pins: 1 RO, 2 ~{{RE}}, 3 DE, 4 DI, 5 GND, 6 A, 7 B, 8 VCC

## ISL3178E
designator *  value ISL3178E  Reference: U
20Mbps, 3.3V RS-485 transceiver, ±15-kV IEC ESD protection, -7V..+12V common mode voltage, SO-8; ki_keywords: RS485 RS422 transceiver half-duplex renesas; ki_fp_filters: SOIC*3.9x4.9mm*P1.27mm*; Footprint: Package_SO:SOIC-8_3.9x4.9mm_P1.27mm; Datasheet: https://www.renesas.com/en/document/dst/isl3170e-isl3171e-isl3172e-isl3173e-isl3174e-isl3175e-isl3176e-isl3177e-isl3178e-datasheet; Description_: 20Mbps, 3.3V RS-485 transceiver, ±15-kV IEC ESD protection, -7V..+12V common mode voltage, SO-8
pins: 1 RO, 2 ~{{RE}}, 3 DE, 4 DI, 5 GND, 6 A, 7 B, 8 VCC

## ISL3280ExHZ
designator *  value ISL3280ExHZ  Reference: U
RS485, RS422, 20Mbps Transceiver, 3.0V to 5.5V, SOT-23-5; ki_keywords: Interface Driver Receiver Transceiver; ki_fp_filters: SOT?23*; Footprint: Package_TO_SOT_SMD:SOT-23-5; Datasheet: https://www.renesas.com/us/en/www/doc/datasheet/isl3280e-81e-82e-83e-84e-85e.pdf; Description_: RS485, RS422, 20Mbps Transceiver, 3.0V to 5.5V, SOT-23-5
pins: 1 VCC, 2 GND, 3 RO, 4 B, 5 A

## ISL3281ExHZ
designator *  value ISL3281ExHZ  Reference: U
RS485, RS422, 20Mbps Transceiver, 3.0V to 5.5V, SOT-23-6; ki_keywords: Interface - Driver Receiver Transceiver; ki_fp_filters: SOT?23*; Footprint: Package_TO_SOT_SMD:SOT-23-6; Datasheet: https://www.renesas.com/us/en/www/doc/datasheet/isl3280e-81e-82e-83e-84e-85e.pdf; Description_: RS485, RS422, 20Mbps Transceiver, 3.0V to 5.5V, SOT-23-6
pins: 1 VCC, 2 GND, 3 RO, 4 B, 5 RE, 6 A

## ISL3282ExRHZ
designator *  value ISL3282ExRHZ  Reference: U
RS485, RS422, 20Mbps Transceiver, 3.0V to 5.5V, TDFN-8; ki_keywords: Interface Driver Receiver Transceiver; ki_fp_filters: TDFN*1EP*3x2mm*P0.5mm*; Footprint: Package_DFN_QFN:TDFN-8-1EP_3x2mm_P0.5mm_EP1.80x1.65mm; Datasheet: https://www.renesas.com/us/en/www/doc/datasheet/isl3280e-81e-82e-83e-84e-85e.pdf; Description_: RS485, RS422, 20Mbps Transceiver, 3.0V to 5.5V, TDFN-8
pins: 1 RO, 2 GND, 3 NC, 4 VCC, 5 A, 6 VL, 7 ~{{RE}}, 8 B, 9 GND

## ISL3283ExHZ
designator *  value ISL3283ExHZ  Reference: U
RS485, RS422, 20Mbps Transceiver, 3.0V to 5.5V, SOT-23-6; ki_keywords: Interface Driver Receiver Transceiver; ki_fp_filters: SOT?23*; Footprint: Package_TO_SOT_SMD:SOT-23-6; Datasheet: https://www.renesas.com/us/en/www/doc/datasheet/isl3280e-81e-82e-83e-84e-85e.pdf; Description_: RS485, RS422, 20Mbps Transceiver, 3.0V to 5.5V, SOT-23-6
pins: 1 VCC, 2 GND, 3 RO, 4 B, 5 ~{{RE}}, 6 A

## ISL3284ExHZ
designator *  value ISL3284ExHZ  Reference: U
RS485, RS422, 20Mbps Transceiver, 3.0V to 5.5V, SOT-23-6; ki_keywords: Interface Driver Receiver Transceiver; ki_fp_filters: SOT?23*; Footprint: Package_TO_SOT_SMD:SOT-23-6; Datasheet: https://www.renesas.com/us/en/www/doc/datasheet/isl3280e-81e-82e-83e-84e-85e.pdf; Description_: RS485, RS422, 20Mbps Transceiver, 3.0V to 5.5V, SOT-23-6
pins: 1 VCC, 2 GND, 3 RO, 4 B, 5 VL, 6 A

## ISL3295xxH
designator *  value ISL3295xxH  Reference: U
RS485, RS422, 20Mbps Transceiver, 3.0V to 7V, Low-Power, SOT-23; ki_keywords: RS485 RS422 transceiver; ki_fp_filters: SOT?23*; Footprint: Package_TO_SOT_SMD:SOT-23-6; Datasheet: https://www.renesas.com/sg/en/www/doc/datasheet/isl3295e-98e.pdf; Description_: RS485, RS422, 20Mbps Transceiver, 3.0V to 7V, Low-Power, SOT-23
pins: 1 DI, 2 VCC, 3 DE, 4 Z, 5 GND, 6 Y

## ISL3298xxRT
designator *  value ISL3298xxRT  Reference: U
RS485, RS422, 20Mbps Transceiver, 3.0V to 7V, Low-Power, TDFN-8; ki_keywords: RS485 RS422 transceiver; ki_fp_filters: TDFN*1EP*3x2mm*P0.5mm*; Footprint: Package_DFN_QFN:TDFN-8-1EP_3x2mm_P0.5mm_EP1.80x1.65mm; Datasheet: https://www.renesas.com/sg/en/www/doc/datasheet/isl3295e-98e.pdf; Description_: RS485, RS422, 20Mbps Transceiver, 3.0V to 7V, Low-Power, TDFN-8
pins: 1 VL, 2 DE, 3 DI, 4 GND, 5 GND, 6 Y, 7 Z, 8 VCC, 9 GND

## ISL83491
designator *  value ISL83491  Reference: U
10Mbps RS485/RS422 transceiver, full duplex, receiver/driver enable, low power shutdown; ki_keywords: RS485 RS422 transceiver full duplex; ki_fp_filters: SOIC* DIP*W7.62mm*; Datasheet: http://www.intersil.com/content/dam/Intersil/documents/isl8/isl83483-85-88-90-91.pdf; Description_: 10Mbps RS485/RS422 transceiver, full duplex, receiver/driver enable, low power shutdown
pins: 2 RO, 3 ~{{RE}}, 4 DE, 5 DI, 6 GND, 7 GND, 9 Y, 10 ~{{Z}}, 11 ~{{B}}, 12 A, 13 VCC, 14 VCC
text: R; D

## ISO1500
designator *  value ISO1500  Reference: U
Half duplex RS-485/RS-422 transceiver, 3-kVRMS Isolated, SSOP-16; ki_keywords: RS-485 RS422 transceiver isolated; ki_fp_filters: SSOP*3.9x4.9mm*P0.635mm*; Footprint: Package_SO:SSOP-16_3.9x4.9mm_P0.635mm; Datasheet: http://www.ti.com/lit/ds/symlink/iso1500.pdf; Description_: Half duplex RS-485/RS-422 transceiver, 3-kVRMS Isolated, SSOP-16
pins: 1 VCC1, 2 GND1, 3 R, 4 ~{{RE}}, 5 DE, 6 D, 7 NC, 8 GND1, 9 GND2, 10 VCC2, 11 NC, 12 A, 13 B, 14 NC, 15 GND2, 16 VCC2

## ISO3082DW
designator *  value ISO3082DW  Reference: U
200 kbps, Isolated 5-V Half-Duplex RS-485 transceiver, SOIC-16; ki_fp_filters: SOIC*7.5x10.3mm*P1.27mm*; Footprint: Package_SO:SOIC-16W_7.5x10.3mm_P1.27mm; Datasheet: http://www.ti.com/lit/ds/symlink/iso3082.pdf; Description_: 200 kbps, Isolated 5-V Half-Duplex RS-485 transceiver, SOIC-16; ki_keywords: RS-485
pins: 1 Vcc1, 2 GND1, 3 R, 4 ~{{RE}}, 5 DE, 6 D, 7 GND1, 8 GND1, 9 GND2, 10 GND2, 11 NC, 12 A, 13 B, 14 NC, 15 GND2, 16 Vcc2
text: GALVANIC ISOLATION

## ISO3088DW
designator *  value ISO3088DW  Reference: U
20 Mbps, Isolated 5-V Half-Duplex RS-485 transceiver, SOIC-16; ki_fp_filters: SOIC*7.5x10.3mm*P1.27mm*; Footprint: Package_SO:SOIC-16W_7.5x10.3mm_P1.27mm; Datasheet: http://www.ti.com/lit/ds/symlink/iso3082.pdf; Description_: 20 Mbps, Isolated 5-V Half-Duplex RS-485 transceiver, SOIC-16; ki_keywords: RS-485
pins: 1 Vcc1, 2 GND1, 3 R, 4 ~{{RE}}, 5 DE, 6 D, 7 GND1, 8 GND1, 9 GND2, 10 GND2, 11 NC, 12 A, 13 B, 14 NC, 15 GND2, 16 Vcc2
text: GALVANIC ISOLATION

## LT1080
designator *  value LT1080  Reference: U
Dual RS232 driver/receiver, 5V supply, 120kb/s; ki_keywords: rs232 uart transceiver; ki_fp_filters: SO* DIP*W7.62mm*; Datasheet: https://www.analog.com/media/en/technical-documentation/data-sheets/10801fe.pdf; Description_: Dual RS232 driver/receiver, 5V supply, 120kb/s
pins: 1 NC, 2 C1+, 3 V+, 4 C1-, 5 C2+, 6 C2-, 7 V-, 8 T2OUT, 9 R2IN, 10 R2OUT, 11 T2IN, 12 T1IN, 13 R1OUT, 14 R1IN, 15 T1OUT, 16 GND, 17 VCC, 18 ON/~{{OFF}}
text: LOGIC; RS232

## LT1785AxN8
designator *  value LT1785AxN8  Reference: U
RS-485, RS-422 Half duplex 250kbps transceiver, fail-safe receiver, DIP-8; ki_keywords: RS485 RS422 transceiver half duplex; ki_fp_filters: DIP*W7.62mm*; Footprint: Package_DIP:DIP-8_W7.62mm; Datasheet: https://www.analog.com/media/en/technical-documentation/data-sheets/LT1785-1785A-1791-1791A.pdf; Description_: RS-485, RS-422 Half duplex 250kbps transceiver, fail-safe receiver, DIP-8
pins: 1 RO, 2 ~{{RE}}, 3 DE, 4 DI, 5 GND, 6 A, 7 B, 8 VCC

## LT1785AxS8
designator *  value LT1785AxS8  Reference: U
RS-485, RS-422 Half duplex 250kbps transceiver, fail-safe receiver, SOIC-8; ki_keywords: RS485 RS422 transceiver half duplex; ki_fp_filters: SOIC*3.9x4.9mm*P1.27mm*; Footprint: Package_SO:SOIC-8_3.9x4.9mm_P1.27mm; Datasheet: https://www.analog.com/media/en/technical-documentation/data-sheets/LT1785-1785A-1791-1791A.pdf; Description_: RS-485, RS-422 Half duplex 250kbps transceiver, fail-safe receiver, SOIC-8
pins: 1 RO, 2 ~{{RE}}, 3 DE, 4 DI, 5 GND, 6 A, 7 B, 8 VCC

## LT1785xN8
designator *  value LT1785xN8  Reference: U
RS-485, RS-422 Half duplex 250kbps transceiver, DIP-8; ki_keywords: RS485 RS422 transceiver half duplex; ki_fp_filters: DIP*W7.62mm*; Footprint: Package_DIP:DIP-8_W7.62mm; Datasheet: https://www.analog.com/media/en/technical-documentation/data-sheets/LT1785-1785A-1791-1791A.pdf; Description_: RS-485, RS-422 Half duplex 250kbps transceiver, DIP-8
pins: 1 RO, 2 ~{{RE}}, 3 DE, 4 DI, 5 GND, 6 A, 7 B, 8 VCC

## LT1785xS8
designator *  value LT1785xS8  Reference: U
RS-485, RS-422 Half duplex 250kbps transceiver, SOIC-8; ki_keywords: RS485 RS422 transceiver half duplex; ki_fp_filters: SOIC*3.9x4.9mm*P1.27mm*; Footprint: Package_SO:SOIC-8_3.9x4.9mm_P1.27mm; Datasheet: https://www.analog.com/media/en/technical-documentation/data-sheets/LT1785-1785A-1791-1791A.pdf; Description_: RS-485, RS-422 Half duplex 250kbps transceiver, SOIC-8
pins: 1 RO, 2 ~{{RE}}, 3 DE, 4 DI, 5 GND, 6 A, 7 B, 8 VCC

## LT1791AxN8
designator *  value LT1791AxN8  Reference: U
RS-485, RS-422 Full duplex 250kbps transceiver, fail-safe receiver, DIP-14; ki_keywords: RS485 RS422 transceiver full duplex; ki_fp_filters: DIP*W7.62mm*; Footprint: Package_DIP:DIP-14_W7.62mm; Datasheet: https://www.analog.com/media/en/technical-documentation/data-sheets/LT1785-1785A-1791-1791A.pdf; Description_: RS-485, RS-422 Full duplex 250kbps transceiver, fail-safe receiver, DIP-14
pins: 1 NC, 2 RO, 3 ~{{RE}}, 4 DE, 5 DI, 6 GND, 7 GND, 8 NC, 9 Y, 10 Z, 11 B, 12 A, 13 NC, 14 VCC

## LT1791AxS
designator *  value LT1791AxS  Reference: U
RS-485, RS-422 Full duplex 250kbps transceiver, fail-safe receiver, SOIC-14; ki_keywords: RS485 RS422 transceiver full duplex; ki_fp_filters: SOIC*3.9x8.7mm*P1.27mm*; Footprint: Package_SO:SOIC-14_3.9x8.7mm_P1.27mm; Datasheet: https://www.analog.com/media/en/technical-documentation/data-sheets/LT1785-1785A-1791-1791A.pdf; Description_: RS-485, RS-422 Full duplex 250kbps transceiver, fail-safe receiver, SOIC-14
pins: 1 NC, 2 RO, 3 ~{{RE}}, 4 DE, 5 DI, 6 GND, 7 GND, 8 NC, 9 Y, 10 Z, 11 B, 12 A, 13 NC, 14 VCC

## LT1791xN8
designator *  value LT1791xN8  Reference: U
RS-485, RS-422 Full duplex 250kbps transceiver, DIP-14; ki_keywords: RS485 RS422 transceiver full duplex; ki_fp_filters: DIP*W7.62mm*; Footprint: Package_DIP:DIP-14_W7.62mm; Datasheet: https://www.analog.com/media/en/technical-documentation/data-sheets/285012fe.pdf; Description_: RS-485, RS-422 Full duplex 250kbps transceiver, DIP-14
pins: 1 NC, 2 RO, 3 ~{{RE}}, 4 DE, 5 DI, 6 GND, 7 GND, 8 NC, 9 Y, 10 Z, 11 B, 12 A, 13 NC, 14 VCC

## LT1791xS
designator *  value LT1791xS  Reference: U
RS-485, RS-422 Full duplex 250kbps transceiver, SOIC-14; ki_keywords: RS485 RS422 transceiver full duplex; ki_fp_filters: SOIC*3.9x8.7mm*P1.27mm*; Footprint: Package_SO:SOIC-14_3.9x8.7mm_P1.27mm; Datasheet: https://www.analog.com/media/en/technical-documentation/data-sheets/LT1785-1785A-1791-1791A.pdf; Description_: RS-485, RS-422 Full duplex 250kbps transceiver, SOIC-14
pins: 1 NC, 2 RO, 3 ~{{RE}}, 4 DE, 5 DI, 6 GND, 7 GND, 8 NC, 9 Y, 10 Z, 11 B, 12 A, 13 NC, 14 VCC

## LTC2850xDD
designator *  value LTC2850xDD  Reference: U
RS-485, RS-422 Half duplex 20Mbps transceiver, DFN-8; ki_keywords: RS485 RS422 transceiver half duplex; ki_fp_filters: DFN*3x3mm*P0.5mm*; Footprint: Package_DFN_QFN:DFN-8-1EP_3x3mm_P0.5mm_EP1.66x2.38mm; Datasheet: https://www.analog.com/media/en/technical-documentation/data-sheets/285012fe.pdf; Description_: RS-485, RS-422 Half duplex 20Mbps transceiver, DFN-8
pins: 1 RO, 2 ~{{RE}}, 3 DE, 4 DI, 5 GND, 6 A, 7 B, 8 VCC, 9 GND

## LTC2850xMS8
designator *  value LTC2850xMS8  Reference: U
RS-485, RS-422 Half duplex 20Mbps transceiver, MSOP-8; ki_keywords: RS485 RS422 transceiver half duplex; ki_fp_filters: MSOP*3x3mm*P0.65mm*; Footprint: Package_SO:MSOP-8_3x3mm_P0.65mm; Datasheet: https://www.analog.com/media/en/technical-documentation/data-sheets/285012fe.pdf; Description_: RS-485, RS-422 Half duplex 20Mbps transceiver, MSOP-8
pins: 1 RO, 2 ~{{RE}}, 3 DE, 4 DI, 5 GND, 6 A, 7 B, 8 VCC

## LTC2850xS8
designator *  value LTC2850xS8  Reference: U
RS-485, RS-422 Half-duplex 20Mbps transceiver, SOIC-8; ki_keywords: RS485 RS422 transceiver half duplex; ki_fp_filters: SOIC*3.9x4.9mm*P1.27mm*; Footprint: Package_SO:SOIC-8_3.9x4.9mm_P1.27mm; Datasheet: https://www.analog.com/media/en/technical-documentation/data-sheets/285012fe.pdf; Description_: RS-485, RS-422 Half-duplex 20Mbps transceiver, SOIC-8
pins: 1 RO, 2 ~{{RE}}, 3 DE, 4 DI, 5 GND, 6 A, 7 B, 8 VCC

## LTC2851xDD
designator *  value LTC2851xDD  Reference: U
RS-485, RS-422 Full duplex 20Mbps transceiver, DFN-8; ki_keywords: RS485 RS422 transceiver full duplex; ki_fp_filters: DFN*3x3mm*P0.5mm*; Footprint: Package_DFN_QFN:DFN-8-1EP_3x3mm_P0.5mm_EP1.66x2.38mm; Datasheet: https://www.analog.com/media/en/technical-documentation/data-sheets/285012fe.pdf; Description_: RS-485, RS-422 Full duplex 20Mbps transceiver, DFN-8
pins: 1 VCC, 2 RO, 3 DI, 4 GND, 5 Y, 6 Z, 7 B, 8 A, 9 GND

## LTC2851xMS8
designator *  value LTC2851xMS8  Reference: U
RS-485, RS-422 Full duplex 20Mbps transceiver, MSOP-8; ki_keywords: RS485 RS422 transceiver full duplex; ki_fp_filters: MSOP*3x3mm*P0.65mm*; Footprint: Package_SO:MSOP-8_3x3mm_P0.65mm; Datasheet: https://www.analog.com/media/en/technical-documentation/data-sheets/285012fe.pdf; Description_: RS-485, RS-422 Full duplex 20Mbps transceiver, MSOP-8
pins: 1 VCC, 2 RO, 3 DI, 4 GND, 5 Y, 6 Z, 7 B, 8 A

## LTC2851xS8
designator *  value LTC2851xS8  Reference: U
RS-485, RS-422 Full duplex 20Mbps transceiver, SOIC-8; ki_keywords: RS485 RS422 transceiver full duplex; ki_fp_filters: SOIC*3.9x4.9mm*P1.27mm*; Footprint: Package_SO:SOIC-8_3.9x4.9mm_P1.27mm; Datasheet: https://www.analog.com/media/en/technical-documentation/data-sheets/285012fe.pdf; Description_: RS-485, RS-422 Full duplex 20Mbps transceiver, SOIC-8
pins: 1 VCC, 2 RO, 3 DI, 4 GND, 5 Y, 6 Z, 7 B, 8 A

## LTC2852xDD
designator *  value LTC2852xDD  Reference: U
RS-485, RS-422 Full duplex 20Mbps transceiver, DFN-10; ki_keywords: RS485 RS422 transceiver full duplex; ki_fp_filters: DFN*3x3mm*P0.5mm*; Footprint: Package_DFN_QFN:DFN-10-1EP_3x3mm_P0.5mm_EP1.65x2.38mm; Datasheet: https://www.analog.com/media/en/technical-documentation/data-sheets/285012fe.pdf; Description_: RS-485, RS-422 Full duplex 20Mbps transceiver, DFN-10
pins: 1 RO, 2 ~{{RE}}, 3 DE, 4 DI, 5 GND, 6 Y, 7 Z, 8 B, 9 A, 10 VCC, 11 GND

## LTC2852xMS
designator *  value LTC2852xMS  Reference: U
RS-485, RS-422 Full duplex 20Mbps transceiver, MSOP-10; ki_keywords: RS485 RS422 transceiver full duplex; ki_fp_filters: MSOP*3x3mm*P0.5mm*; Footprint: Package_SO:MSOP-10_3x3mm_P0.5mm; Datasheet: https://www.analog.com/media/en/technical-documentation/data-sheets/285012fe.pdf; Description_: RS-485, RS-422 Full duplex 20Mbps transceiver, MSOP-10
pins: 1 RO, 2 ~{{RE}}, 3 DE, 4 DI, 5 GND, 6 Y, 7 Z, 8 B, 9 A, 10 VCC

## LTC2852xS
designator *  value LTC2852xS  Reference: U
RS-485, RS-422 Full duplex 20Mbps transceiver, SOIC-14; ki_keywords: RS485 RS422 transceiver full duplex; ki_fp_filters: SOIC*3.9x8.7mm*P1.27mm*; Footprint: Package_SO:SOIC-14_3.9x8.7mm_P1.27mm; Datasheet: https://www.analog.com/media/en/technical-documentation/data-sheets/285012fe.pdf; Description_: RS-485, RS-422 Full duplex 20Mbps transceiver, SOIC-14
pins: 1 NC, 2 RO, 3 ~{{RE}}, 4 DE, 5 DI, 6 GND, 7 GND, 8 NC, 9 Y, 10 Z, 11 B, 12 A, 13 NC, 14 VCC

## LTC2856xDD-1
designator *  value LTC2856xDD-1  Reference: U
RS-485, RS-422 Half duplex 20Mbps transceiver, DFN-8; ki_keywords: RS485 RS422 transceiver half duplex; ki_fp_filters: DFN*3x3mm*P0.5mm*; Footprint: Package_DFN_QFN:DFN-8-1EP_3x3mm_P0.5mm_EP1.66x2.38mm; Datasheet: https://www.analog.com/media/en/technical-documentation/data-sheets/285678fg.pdf; Description_: RS-485, RS-422 Half duplex 20Mbps transceiver, DFN-8
pins: 1 RO, 2 ~{{RE}}, 3 DE, 4 DI, 5 GND, 6 A, 7 B, 8 VCC, 9 GND

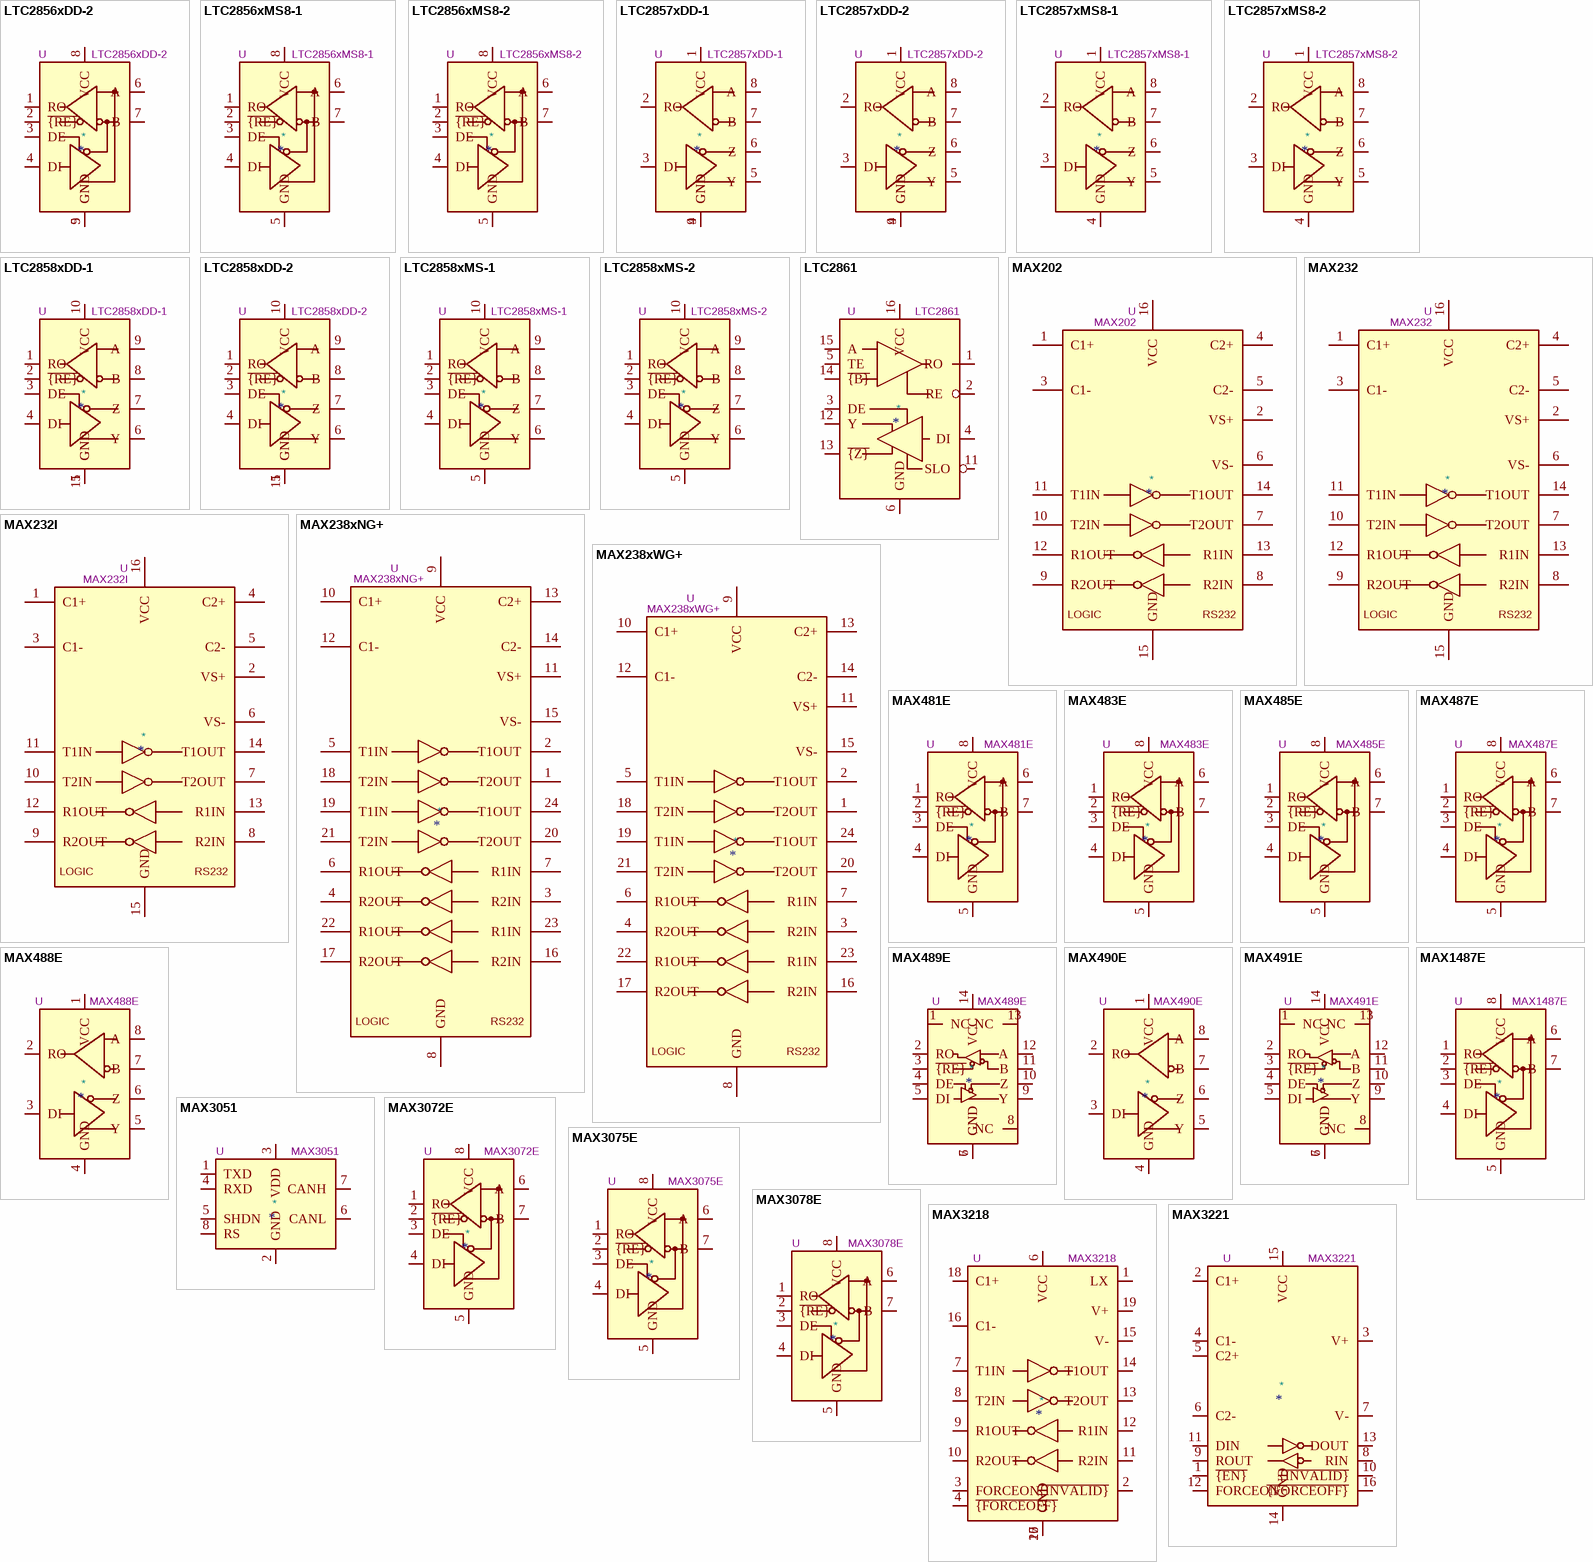
[diagram p3: symbols LTC2856xDD-2 to MAX3221]

## LTC2856xDD-2
designator *  value LTC2856xDD-2  Reference: U
RS-485, RS-422 Half duplex 250kbps transceiver, DFN-8; ki_keywords: RS485 RS422 transceiver half duplex; ki_fp_filters: DFN*3x3mm*P0.5mm*; Footprint: Package_DFN_QFN:DFN-8-1EP_3x3mm_P0.5mm_EP1.66x2.38mm; Datasheet: https://www.analog.com/media/en/technical-documentation/data-sheets/285678fg.pdf; Description_: RS-485, RS-422 Half duplex 250kbps transceiver, DFN-8
pins: 1 RO, 2 ~{{RE}}, 3 DE, 4 DI, 5 GND, 6 A, 7 B, 8 VCC, 9 GND

## LTC2856xMS8-1
designator *  value LTC2856xMS8-1  Reference: U
RS-485, RS-422 Half duplex 20Mbps transceiver, MSOP-8; ki_keywords: RS485 RS422 transceiver half duplex; ki_fp_filters: MSOP*3x3mm*P0.65mm*; Footprint: Package_SO:MSOP-8_3x3mm_P0.65mm; Datasheet: https://www.analog.com/media/en/technical-documentation/data-sheets/285678fg.pdf; Description_: RS-485, RS-422 Half duplex 20Mbps transceiver, MSOP-8
pins: 1 RO, 2 ~{{RE}}, 3 DE, 4 DI, 5 GND, 6 A, 7 B, 8 VCC

## LTC2856xMS8-2
designator *  value LTC2856xMS8-2  Reference: U
RS-485, RS-422 Half duplex 250kbps transceiver, MSOP-8; ki_keywords: RS485 RS422 transceiver half duplex; ki_fp_filters: MSOP*3x3mm*P0.65mm*; Footprint: Package_SO:MSOP-8_3x3mm_P0.65mm; Datasheet: https://www.analog.com/media/en/technical-documentation/data-sheets/285678fg.pdf; Description_: RS-485, RS-422 Half duplex 250kbps transceiver, MSOP-8
pins: 1 RO, 2 ~{{RE}}, 3 DE, 4 DI, 5 GND, 6 A, 7 B, 8 VCC

## LTC2857xDD-1
designator *  value LTC2857xDD-1  Reference: U
RS-485, RS-422 Full duplex 250kbps transceiver, DFN-8; ki_keywords: RS485 RS422 transceiver full duplex; ki_fp_filters: DFN*3x3mm*P0.5mm*; Footprint: Package_DFN_QFN:DFN-8-1EP_3x3mm_P0.5mm_EP1.66x2.38mm; Datasheet: https://www.analog.com/media/en/technical-documentation/data-sheets/285678fg.pdf; Description_: RS-485, RS-422 Full duplex 250kbps transceiver, DFN-8
pins: 1 VCC, 2 RO, 3 DI, 4 GND, 5 Y, 6 Z, 7 B, 8 A, 9 GND

## LTC2857xDD-2
designator *  value LTC2857xDD-2  Reference: U
RS-485, RS-422 Full duplex 250kbps transceiver, DFN-8; ki_keywords: RS485 RS422 transceiver full duplex; ki_fp_filters: DFN*3x3mm*P0.5mm*; Footprint: Package_DFN_QFN:DFN-8-1EP_3x3mm_P0.5mm_EP1.66x2.38mm; Datasheet: https://www.analog.com/media/en/technical-documentation/data-sheets/285012fe.pdf; Description_: RS-485, RS-422 Full duplex 250kbps transceiver, DFN-8
pins: 1 VCC, 2 RO, 3 DI, 4 GND, 5 Y, 6 Z, 7 B, 8 A, 9 GND

## LTC2857xMS8-1
designator *  value LTC2857xMS8-1  Reference: U
RS-485, RS-422 Full duplex 20Mbps transceiver, MSOP-8; ki_keywords: RS485 RS422 transceiver full duplex; ki_fp_filters: MSOP*3x3mm*P0.65mm*; Footprint: Package_SO:MSOP-8_3x3mm_P0.65mm; Datasheet: https://www.analog.com/media/en/technical-documentation/data-sheets/285678fg.pdf; Description_: RS-485, RS-422 Full duplex 20Mbps transceiver, MSOP-8
pins: 1 VCC, 2 RO, 3 DI, 4 GND, 5 Y, 6 Z, 7 B, 8 A

## LTC2857xMS8-2
designator *  value LTC2857xMS8-2  Reference: U
RS-485, RS-422 Full duplex 250kbps transceiver, MSOP-8; ki_keywords: RS485 RS422 transceiver full duplex; ki_fp_filters: MSOP*3x3mm*P0.65mm*; Footprint: Package_SO:MSOP-8_3x3mm_P0.65mm; Datasheet: https://www.analog.com/media/en/technical-documentation/data-sheets/285678fg.pdf; Description_: RS-485, RS-422 Full duplex 250kbps transceiver, MSOP-8
pins: 1 VCC, 2 RO, 3 DI, 4 GND, 5 Y, 6 Z, 7 B, 8 A

## LTC2858xDD-1
designator *  value LTC2858xDD-1  Reference: U
RS-485, RS-422 Full duplex 20Mbps transceiver, DFN-10; ki_keywords: RS485 RS422 transceiver full duplex; ki_fp_filters: DFN*3x3mm*P0.5mm*; Footprint: Package_DFN_QFN:DFN-10-1EP_3x3mm_P0.5mm_EP1.65x2.38mm; Datasheet: https://www.analog.com/media/en/technical-documentation/data-sheets/285678fg.pdf; Description_: RS-485, RS-422 Full duplex 20Mbps transceiver, DFN-10
pins: 1 RO, 2 ~{{RE}}, 3 DE, 4 DI, 5 GND, 6 Y, 7 Z, 8 B, 9 A, 10 VCC, 11 GND

## LTC2858xDD-2
designator *  value LTC2858xDD-2  Reference: U
RS-485, RS-422 Full duplex 250kbps transceiver, DFN-10; ki_keywords: RS485 RS422 transceiver full duplex; ki_fp_filters: DFN*3x3mm*P0.5mm*; Footprint: Package_DFN_QFN:DFN-10-1EP_3x3mm_P0.5mm_EP1.65x2.38mm; Datasheet: https://www.analog.com/media/en/technical-documentation/data-sheets/285678fg.pdf; Description_: RS-485, RS-422 Full duplex 250kbps transceiver, DFN-10
pins: 1 RO, 2 ~{{RE}}, 3 DE, 4 DI, 5 GND, 6 Y, 7 Z, 8 B, 9 A, 10 VCC, 11 GND

## LTC2858xMS-1
designator *  value LTC2858xMS-1  Reference: U
RS-485, RS-422 Full duplex 20Mbps transceiver, MSOP-10; ki_keywords: RS485 RS422 transceiver full duplex; ki_fp_filters: MSOP*3x3mm*P0.5mm*; Footprint: Package_SO:MSOP-10_3x3mm_P0.5mm; Datasheet: https://www.analog.com/media/en/technical-documentation/data-sheets/285678fg.pdf; Description_: RS-485, RS-422 Full duplex 20Mbps transceiver, MSOP-10
pins: 1 RO, 2 ~{{RE}}, 3 DE, 4 DI, 5 GND, 6 Y, 7 Z, 8 B, 9 A, 10 VCC

## LTC2858xMS-2
designator *  value LTC2858xMS-2  Reference: U
RS-485, RS-422 Full duplex 250kbps transceiver, MSOP-10; ki_keywords: RS485 RS422 transceiver full duplex; ki_fp_filters: MSOP*3x3mm*P0.5mm*; Footprint: Package_SO:MSOP-10_3x3mm_P0.5mm; Datasheet: https://www.analog.com/media/en/technical-documentation/data-sheets/285678fg.pdf; Description_: RS-485, RS-422 Full duplex 250kbps transceiver, MSOP-10
pins: 1 RO, 2 ~{{RE}}, 3 DE, 4 DI, 5 GND, 6 Y, 7 Z, 8 B, 9 A, 10 VCC

## LTC2861
designator *  value LTC2861  Reference: U
20Mbps RS485 transceiver with tntegrated switchable termination; ki_fp_filters: SSOP*; Footprint: Package_SO:SSOP-28_5.3x10.2mm_P0.65mm; Datasheet: linear-tec\ltc2859-2861.pdf; Description_: 20Mbps RS485 transceiver with tntegrated switchable termination; ki_keywords: RS485
pins: 1 RO, 2 RE, 3 DE, 4 DI, 5 TE, 6 GND, 11 SLO, 12 Y, 13 ~{{Z}}, 14 ~{{B}}, 15 A, 16 VCC

## MAX202
designator *  value MAX202  Reference: U
Dual RS232 driver/receiver, 5V supply, 120kb/s, 0C-70C; ki_keywords: rs232 uart transceiver line-driver; ki_fp_filters: SOIC*P1.27mm* DIP*W7.62mm* TSSOP*4.4x5mm*P0.65mm*; Datasheet: http://www.ti.com/lit/ds/symlink/max202.pdf; Description_: Dual RS232 driver/receiver, 5V supply, 120kb/s, 0C-70C
pins: 1 C1+, 2 VS+, 3 C1-, 4 C2+, 5 C2-, 6 VS-, 7 T2OUT, 8 R2IN, 9 R2OUT, 10 T2IN, 11 T1IN, 12 R1OUT, 13 R1IN, 14 T1OUT, 15 GND, 16 VCC
text: LOGIC; RS232

## MAX232
designator *  value MAX232  Reference: U
Dual RS232 driver/receiver, 5V supply, 120kb/s, 0C-70C; ki_keywords: rs232 uart transceiver line-driver; ki_fp_filters: SOIC*P1.27mm* DIP*W7.62mm* TSSOP*4.4x5mm*P0.65mm*; Datasheet: http://www.ti.com/lit/ds/symlink/max232.pdf; Description_: Dual RS232 driver/receiver, 5V supply, 120kb/s, 0C-70C
pins: 1 C1+, 2 VS+, 3 C1-, 4 C2+, 5 C2-, 6 VS-, 7 T2OUT, 8 R2IN, 9 R2OUT, 10 T2IN, 11 T1IN, 12 R1OUT, 13 R1IN, 14 T1OUT, 15 GND, 16 VCC
text: LOGIC; RS232

## MAX232I
designator *  value MAX232I  Reference: U
Dual RS232 driver/receiver, 5V supply, 120kb/s, -40C-80C; ki_keywords: rs232 uart transceiver line-driver; ki_fp_filters: SOIC*P1.27mm* DIP*W7.62mm* TSSOP*4.4x5mm*P0.65mm*; Datasheet: http://www.ti.com/lit/ds/symlink/max232.pdf; Description_: Dual RS232 driver/receiver, 5V supply, 120kb/s, -40C-80C
pins: 1 C1+, 2 VS+, 3 C1-, 4 C2+, 5 C2-, 6 VS-, 7 T2OUT, 8 R2IN, 9 R2OUT, 10 T2IN, 11 T1IN, 12 R1OUT, 13 R1IN, 14 T1OUT, 15 GND, 16 VCC
text: LOGIC; RS232

## MAX238xNG+
designator *  value MAX238xNG+  Reference: U
Quad RS232 driver/receiver, 5V supply, 120kb/s, DIP-24; ki_keywords: rs232 uart transceiver line-driver; ki_fp_filters: DIP*W7.62mm*; Footprint: Package_DIP:DIP-24_W7.62mm; Datasheet: https://eu.mouser.com/datasheet/2/609/MAX220_MAX249-3127785.pdf; Description_: Quad RS232 driver/receiver, 5V supply, 120kb/s, DIP-24
pins: 1 T2OUT, 2 T1OUT, 3 R2IN, 4 R2OUT, 5 T1IN, 6 R1OUT, 7 R1IN, 8 GND, 9 VCC, 10 C1+, 11 VS+, 12 C1-, 13 C2+, 14 C2-, 15 VS-, 16 R2IN, 17 R2OUT, 18 T2IN, 19 T1IN, 20 T2OUT, 21 T2IN, 22 R1OUT, 23 R1IN, 24 T1OUT
text: LOGIC; RS232

## MAX238xWG+
designator *  value MAX238xWG+  Reference: U
Quad RS232 driver/receiver, 5V supply, 120kb/s, SOIC-24W; ki_keywords: rs232 uart transceiver line-driver; ki_fp_filters: SOIC*P1.27mm*; Footprint: Package_SO:SOIC-24W_7.5x15.4mm_P1.27mm; Datasheet: https://eu.mouser.com/datasheet/2/609/MAX220_MAX249-3127785.pdf; Description_: Quad RS232 driver/receiver, 5V supply, 120kb/s, SOIC-24W
pins: 1 T2OUT, 2 T1OUT, 3 R2IN, 4 R2OUT, 5 T1IN, 6 R1OUT, 7 R1IN, 8 GND, 9 VCC, 10 C1+, 11 VS+, 12 C1-, 13 C2+, 14 C2-, 15 VS-, 16 R2IN, 17 R2OUT, 18 T2IN, 19 T1IN, 20 T2OUT, 21 T2IN, 22 R1OUT, 23 R1IN, 24 T1OUT
text: LOGIC; RS232

## MAX481E
designator *  value MAX481E  Reference: U
Half duplex RS-485/RS-422, 2.5 Mbps, ±15kV electro-static discharge (ESD) protection, no slew-rate, with low-power shutdown, with receiver/driver enable, 32 receiver drive capability, DIP-8 and SOIC-8; ki_keywords: transceiver; ki_fp_filters: DIP*W7.62mm* SOIC*3.9x4.9mm*P1.27mm*; Datasheet: https://datasheets.maximintegrated.com/en/ds/MAX1487E-MAX491E.pdf; Description_: Half duplex RS-485/RS-422, 2.5 Mbps, ±15kV electro-static discharge (ESD) protection, no slew-rate, with low-power shutdown, with receiver/driver enable, 32 receiver drive capability, DIP-8 and SOIC-8
pins: 1 RO, 2 ~{{RE}}, 3 DE, 4 DI, 5 GND, 6 A, 7 B, 8 VCC

## MAX483E
designator *  value MAX483E  Reference: U
Half duplex RS-485/RS-422, 0.25 Mbps, ±15kV electro-static discharge (ESD) protection, with slew-rate, with low-power shutdown, with receiver/driver enable, 32 receiver drive capability, DIP-8 and SOIC-8; ki_keywords: transceiver; ki_fp_filters: DIP*W7.62mm* SOIC*3.9x4.9mm*P1.27mm*; Datasheet: https://datasheets.maximintegrated.com/en/ds/MAX1487E-MAX491E.pdf; Description_: Half duplex RS-485/RS-422, 0.25 Mbps, ±15kV electro-static discharge (ESD) protection, with slew-rate, with low-power shutdown, with receiver/driver enable, 32 receiver drive capability, DIP-8 and SOIC-8
pins: 1 RO, 2 ~{{RE}}, 3 DE, 4 DI, 5 GND, 6 A, 7 B, 8 VCC